# Altium schematic symbol library kmilo17pet-PIC32MX.SchLib: 556 symbols (part 7 of 38)
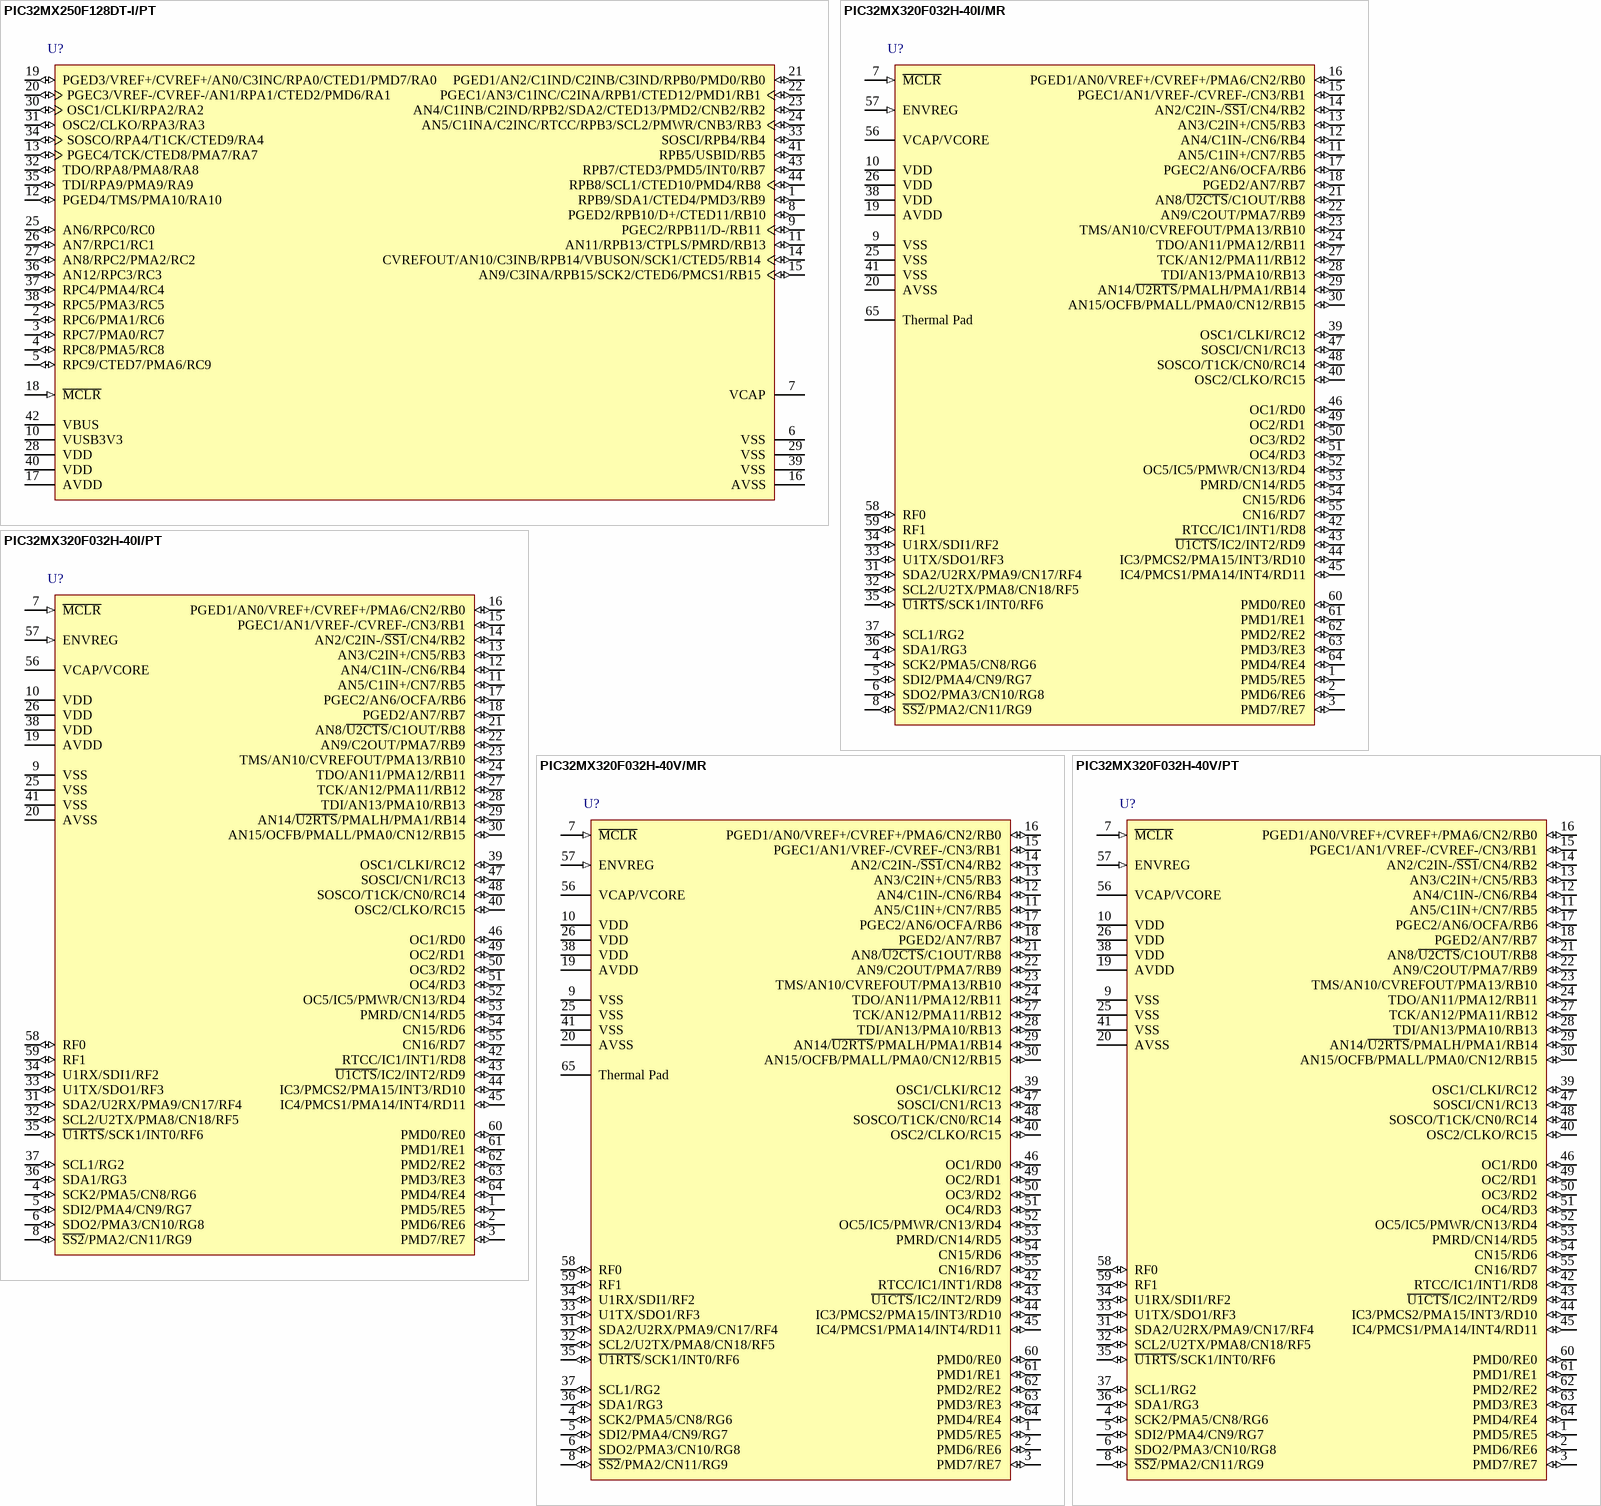
[diagram p198: symbols PIC32MX250F128DT-I/PT to PIC32MX320F032H-40V/PT]

## PIC32MX320F032H-40V/PT
designator U?
High Performance 40 MHz MIPS-Based 32-Bit Flash Microcontroller, 32KB Program Memory, 64-pin TQFP, V-Temperature; Manufacturer: Microchip; PartNumber: PIC32MX320F032H-40V/PT; DatasheetVersion: revH, May-2011; PackageVersion: revBB, Aug-2009; PackageReference: TQFP-PT64; PackageDescription: 64-Lead Thin Plastic Quad Flat Pack (PT) - 10x10x1mm Body, 2.00mm [TQFP]; Supplier 1: Digi-Key; Supplier Part Number 1: PIC32MX320F032H-40V/PT-ND; Mounting Technology: Surface Mount; Code_JEDEC: MS-026; ComponentLink1Description: Manufacturer URL; ComponentLink1URL: http://www.microchip.com/; ComponentLink2Description: Datasheet; ComponentLink2URL: http://ww1.microchip.com/downloads/en/DeviceDoc/61143H.pdf; ComponentLink3Description: Package Specification; ComponentLink3URL: http://ww1.microchip.com/downloads/en/PackagingSpec/en012702.pdf
footprint TQFP-PT64_N (Thin QFP, 64-Leads, Body 10x10mm, Pitch 0.5mm, IPC Medium Density)
footprint TQFP-PT64_L (Thin QFP, 64-Leads, Body 10x10mm, Pitch 0.5mm, IPC High Density)
footprint TQFP-PT64_M (Thin QFP, 64-Leads, Body 10x10mm, Pitch 0.5mm, IPC Low Density)
pins: 1 PMD5/RE5 (io), 2 PMD6/RE6 (io), 3 PMD7/RE7 (io), 4 SCK2/PMA5/CN8/RG6 (io), 5 SDI2/PMA4/CN9/RG7 (io), 6 SDO2/PMA3/CN10/RG8 (io), 7 ~{MCLR} (in), 8 ~{SS2}/PMA2/CN11/RG9 (io), 9 VSS (power), 10 VDD (power), 11 AN5/C1IN+/CN7/RB5 (io), 12 AN4/C1IN-/CN6/RB4 (io), 13 AN3/C2IN+/CN5/RB3 (io), 14 AN2/C2IN-/~{SS1}/CN4/RB2 (io), 15 PGEC1/AN1/VREF-/CVREF-/CN3/RB1 (io), 16 PGED1/AN0/VREF+/CVREF+/PMA6/CN2/RB0 (io), 17 PGEC2/AN6/OCFA/RB6 (io), 18 PGED2/AN7/RB7 (io), 19 AVDD (power), 20 AVSS (power), 21 AN8/~{U2CTS}/C1OUT/RB8 (io), 22 AN9/C2OUT/PMA7/RB9 (io), 23 TMS/AN10/CVREFOUT/PMA13/RB10 (io), 24 TDO/AN11/PMA12/RB11 (io), 25 VSS (power), 26 VDD (power), 27 TCK/AN12/PMA11/RB12 (io), 28 TDI/AN13/PMA10/RB13 (io), 29 AN14/~{U2RTS}/PMALH/PMA1/RB14 (io), 30 AN15/OCFB/PMALL/PMA0/CN12/RB15 (io), 31 SDA2/U2RX/PMA9/CN17/RF4 (io), 32 SCL2/U2TX/PMA8/CN18/RF5 (io), 33 U1TX/SDO1/RF3 (io), 34 U1RX/SDI1/RF2 (io), 35 ~{U1RTS}/SCK1/INT0/RF6 (io), 36 SDA1/RG3 (io), 37 SCL1/RG2 (io), 38 VDD (power), 39 OSC1/CLKI/RC12 (io), 40 OSC2/CLKO/RC15 (io), 41 VSS (power), 42 RTCC/IC1/INT1/RD8 (io), 43 ~{U1CTS}/IC2/INT2/RD9 (io), 44 IC3/PMCS2/PMA15/INT3/RD10 (io), 45 IC4/PMCS1/PMA14/INT4/RD11 (io), 46 OC1/RD0 (io), 47 SOSCI/CN1/RC13 (io), 48 SOSCO/T1CK/CN0/RC14 (io), 49 OC2/RD1 (io), 50 OC3/RD2 (io), 51 OC4/RD3 (io), 52 OC5/IC5/PMWR/CN13/RD4 (io), 53 PMRD/CN14/RD5 (io), 54 CN15/RD6 (io), 55 CN16/RD7 (io), 56 VCAP/VCORE (power), 57 ENVREG (in), 58 RF0 (io), 59 RF1 (io), 60 PMD0/RE0 (io), 61 PMD1/RE1 (io), 62 PMD2/RE2 (io), 63 PMD3/RE3 (io), 64 PMD4/RE4 (io)

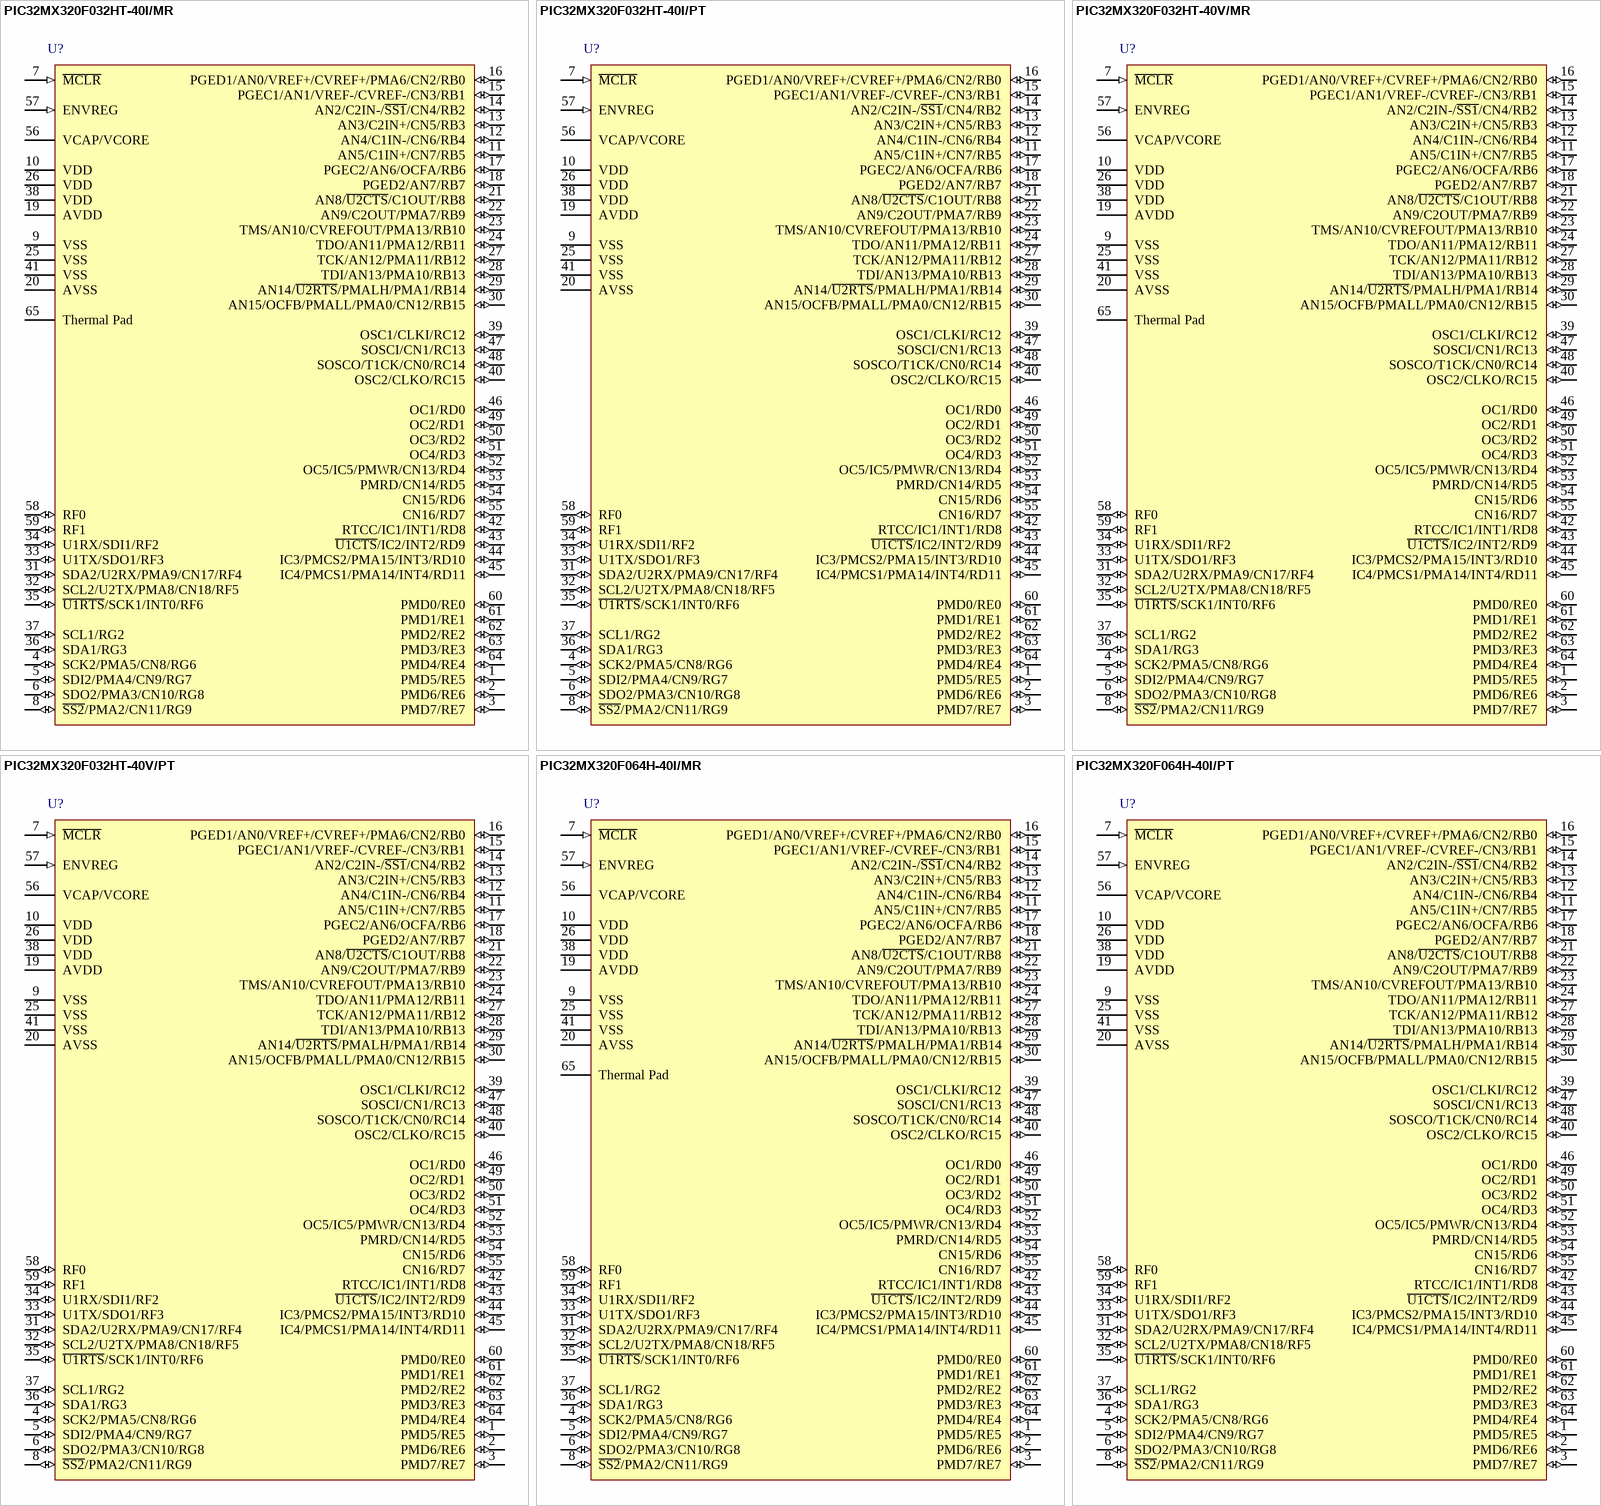
[diagram p25: symbols PIC32MX320F032HT-40I/MR to PIC32MX320F064H-40I/PT]

## PIC32MX320F032HT-40I/MR
designator U?
High Performance 40 MHz MIPS-Based 32-Bit Flash Microcontroller, 32KB Program Memory, 64-pin QFN, Industrial Temperature, Tape and Reel; Manufacturer: Microchip; PartNumber: PIC32MX320F032HT-40I/MR; DatasheetVersion: revH, May-2011; PackageVersion: revBB, Aug-2009; PackageReference: QFN-MR64; PackageDescription: 64-Lead Plastic Quad Flat, No Lead Package (MR) - 9x9x0.9 mm Body [QFN]; Supplier 1: Digi-Key; Supplier Part Number 1: PIC32MX320F032HT-40I/MR-ND; Mounting Technology: Surface Mount; ComponentLink1Description: Manufacturer URL; ComponentLink1URL: http://www.microchip.com/; ComponentLink2Description: Datasheet; ComponentLink2URL: http://ww1.microchip.com/downloads/en/DeviceDoc/61143H.pdf; ComponentLink3Description: Package Specification; ComponentLink3URL: http://ww1.microchip.com/downloads/en/PackagingSpec/en012702.pdf
footprint QFN-MR64_N (QFN, 64-Leads, Body 9x9mm, Pitch 0.5mm, Thermal Pad 7.5x7.5mm, IPC Medium Density)
footprint QFN-MR64_L (QFN, 64-Leads, Body 9x9mm, Pitch 0.5mm, Thermal Pad 7.5x7.5mm, IPC High Density)
footprint QFN-MR64_M (QFN, 64-Leads, Body 9x9mm, Pitch 0.5mm, Thermal Pad 7.5x7.5mm, IPC Low Density)
pins: 1 PMD5/RE5 (io), 2 PMD6/RE6 (io), 3 PMD7/RE7 (io), 4 SCK2/PMA5/CN8/RG6 (io), 5 SDI2/PMA4/CN9/RG7 (io), 6 SDO2/PMA3/CN10/RG8 (io), 7 ~{MCLR} (in), 8 ~{SS2}/PMA2/CN11/RG9 (io), 9 VSS (power), 10 VDD (power), 11 AN5/C1IN+/CN7/RB5 (io), 12 AN4/C1IN-/CN6/RB4 (io), 13 AN3/C2IN+/CN5/RB3 (io), 14 AN2/C2IN-/~{SS1}/CN4/RB2 (io), 15 PGEC1/AN1/VREF-/CVREF-/CN3/RB1 (io), 16 PGED1/AN0/VREF+/CVREF+/PMA6/CN2/RB0 (io), 17 PGEC2/AN6/OCFA/RB6 (io), 18 PGED2/AN7/RB7 (io), 19 AVDD (power), 20 AVSS (power), 21 AN8/~{U2CTS}/C1OUT/RB8 (io), 22 AN9/C2OUT/PMA7/RB9 (io), 23 TMS/AN10/CVREFOUT/PMA13/RB10 (io), 24 TDO/AN11/PMA12/RB11 (io), 25 VSS (power), 26 VDD (power), 27 TCK/AN12/PMA11/RB12 (io), 28 TDI/AN13/PMA10/RB13 (io), 29 AN14/~{U2RTS}/PMALH/PMA1/RB14 (io), 30 AN15/OCFB/PMALL/PMA0/CN12/RB15 (io), 31 SDA2/U2RX/PMA9/CN17/RF4 (io), 32 SCL2/U2TX/PMA8/CN18/RF5 (io), 33 U1TX/SDO1/RF3 (io), 34 U1RX/SDI1/RF2 (io), 35 ~{U1RTS}/SCK1/INT0/RF6 (io), 36 SDA1/RG3 (io), 37 SCL1/RG2 (io), 38 VDD (power), 39 OSC1/CLKI/RC12 (io), 40 OSC2/CLKO/RC15 (io), 41 VSS (power), 42 RTCC/IC1/INT1/RD8 (io), 43 ~{U1CTS}/IC2/INT2/RD9 (io), 44 IC3/PMCS2/PMA15/INT3/RD10 (io), 45 IC4/PMCS1/PMA14/INT4/RD11 (io), 46 OC1/RD0 (io), 47 SOSCI/CN1/RC13 (io), 48 SOSCO/T1CK/CN0/RC14 (io), 49 OC2/RD1 (io), 50 OC3/RD2 (io), 51 OC4/RD3 (io), 52 OC5/IC5/PMWR/CN13/RD4 (io), 53 PMRD/CN14/RD5 (io), 54 CN15/RD6 (io), 55 CN16/RD7 (io), 56 VCAP/VCORE (power), 57 ENVREG (in), 58 RF0 (io), 59 RF1 (io), 60 PMD0/RE0 (io), 61 PMD1/RE1 (io), 62 PMD2/RE2 (io), 63 PMD3/RE3 (io), 64 PMD4/RE4 (io), 65 Thermal Pad

## PIC32MX320F032HT-40I/PT
designator U?
High Performance 40 MHz MIPS-Based 32-Bit Flash Microcontroller, 32KB Program Memory, 64-pin TQFP, Industrial Temperature, Tape and Reel; Manufacturer: Microchip; PartNumber: PIC32MX320F032HT-40I/PT; DatasheetVersion: revH, May-2011; PackageVersion: revBB, Aug-2009; PackageReference: TQFP-PT64; PackageDescription: 64-Lead Thin Plastic Quad Flat Pack (PT) - 10x10x1mm Body, 2.00mm [TQFP]; Supplier 1: Digi-Key; Supplier Part Number 1: PIC32MX320F032HT-40I/PT-ND; Mounting Technology: Surface Mount; Code_JEDEC: MS-026; ComponentLink1Description: Manufacturer URL; ComponentLink1URL: http://www.microchip.com/; ComponentLink2Description: Datasheet; ComponentLink2URL: http://ww1.microchip.com/downloads/en/DeviceDoc/61143H.pdf; ComponentLink3Description: Package Specification; ComponentLink3URL: http://ww1.microchip.com/downloads/en/PackagingSpec/en012702.pdf
footprint TQFP-PT64_N (Thin QFP, 64-Leads, Body 10x10mm, Pitch 0.5mm, IPC Medium Density)
footprint TQFP-PT64_L (Thin QFP, 64-Leads, Body 10x10mm, Pitch 0.5mm, IPC High Density)
footprint TQFP-PT64_M (Thin QFP, 64-Leads, Body 10x10mm, Pitch 0.5mm, IPC Low Density)
pins: 1 PMD5/RE5 (io), 2 PMD6/RE6 (io), 3 PMD7/RE7 (io), 4 SCK2/PMA5/CN8/RG6 (io), 5 SDI2/PMA4/CN9/RG7 (io), 6 SDO2/PMA3/CN10/RG8 (io), 7 ~{MCLR} (in), 8 ~{SS2}/PMA2/CN11/RG9 (io), 9 VSS (power), 10 VDD (power), 11 AN5/C1IN+/CN7/RB5 (io), 12 AN4/C1IN-/CN6/RB4 (io), 13 AN3/C2IN+/CN5/RB3 (io), 14 AN2/C2IN-/~{SS1}/CN4/RB2 (io), 15 PGEC1/AN1/VREF-/CVREF-/CN3/RB1 (io), 16 PGED1/AN0/VREF+/CVREF+/PMA6/CN2/RB0 (io), 17 PGEC2/AN6/OCFA/RB6 (io), 18 PGED2/AN7/RB7 (io), 19 AVDD (power), 20 AVSS (power), 21 AN8/~{U2CTS}/C1OUT/RB8 (io), 22 AN9/C2OUT/PMA7/RB9 (io), 23 TMS/AN10/CVREFOUT/PMA13/RB10 (io), 24 TDO/AN11/PMA12/RB11 (io), 25 VSS (power), 26 VDD (power), 27 TCK/AN12/PMA11/RB12 (io), 28 TDI/AN13/PMA10/RB13 (io), 29 AN14/~{U2RTS}/PMALH/PMA1/RB14 (io), 30 AN15/OCFB/PMALL/PMA0/CN12/RB15 (io), 31 SDA2/U2RX/PMA9/CN17/RF4 (io), 32 SCL2/U2TX/PMA8/CN18/RF5 (io), 33 U1TX/SDO1/RF3 (io), 34 U1RX/SDI1/RF2 (io), 35 ~{U1RTS}/SCK1/INT0/RF6 (io), 36 SDA1/RG3 (io), 37 SCL1/RG2 (io), 38 VDD (power), 39 OSC1/CLKI/RC12 (io), 40 OSC2/CLKO/RC15 (io), 41 VSS (power), 42 RTCC/IC1/INT1/RD8 (io), 43 ~{U1CTS}/IC2/INT2/RD9 (io), 44 IC3/PMCS2/PMA15/INT3/RD10 (io), 45 IC4/PMCS1/PMA14/INT4/RD11 (io), 46 OC1/RD0 (io), 47 SOSCI/CN1/RC13 (io), 48 SOSCO/T1CK/CN0/RC14 (io), 49 OC2/RD1 (io), 50 OC3/RD2 (io), 51 OC4/RD3 (io), 52 OC5/IC5/PMWR/CN13/RD4 (io), 53 PMRD/CN14/RD5 (io), 54 CN15/RD6 (io), 55 CN16/RD7 (io), 56 VCAP/VCORE (power), 57 ENVREG (in), 58 RF0 (io), 59 RF1 (io), 60 PMD0/RE0 (io), 61 PMD1/RE1 (io), 62 PMD2/RE2 (io), 63 PMD3/RE3 (io), 64 PMD4/RE4 (io)

## PIC32MX320F032HT-40V/MR
designator U?
High Performance 40 MHz MIPS-Based 32-Bit Flash Microcontroller, 32KB Program Memory, 64-pin QFN, V-Temperature, Tape and Reel; Manufacturer: Microchip; PartNumber: PIC32MX320F032HT-40V/MR; DatasheetVersion: revH, May-2011; PackageVersion: revBB, Aug-2009; PackageReference: QFN-MR64; PackageDescription: 64-Lead Plastic Quad Flat, No Lead Package (MR) - 9x9x0.9 mm Body [QFN]; Supplier 1: Digi-Key; Supplier Part Number 1: PIC32MX320F032HT-40V/MR-ND; Mounting Technology: Surface Mount; ComponentLink1Description: Manufacturer URL; ComponentLink1URL: http://www.microchip.com/; ComponentLink2Description: Datasheet; ComponentLink2URL: http://ww1.microchip.com/downloads/en/DeviceDoc/61143H.pdf; ComponentLink3Description: Package Specification; ComponentLink3URL: http://ww1.microchip.com/downloads/en/PackagingSpec/en012702.pdf
footprint QFN-MR64_N (QFN, 64-Leads, Body 9x9mm, Pitch 0.5mm, Thermal Pad 7.5x7.5mm, IPC Medium Density)
footprint QFN-MR64_L (QFN, 64-Leads, Body 9x9mm, Pitch 0.5mm, Thermal Pad 7.5x7.5mm, IPC High Density)
footprint QFN-MR64_M (QFN, 64-Leads, Body 9x9mm, Pitch 0.5mm, Thermal Pad 7.5x7.5mm, IPC Low Density)
pins: 1 PMD5/RE5 (io), 2 PMD6/RE6 (io), 3 PMD7/RE7 (io), 4 SCK2/PMA5/CN8/RG6 (io), 5 SDI2/PMA4/CN9/RG7 (io), 6 SDO2/PMA3/CN10/RG8 (io), 7 ~{MCLR} (in), 8 ~{SS2}/PMA2/CN11/RG9 (io), 9 VSS (power), 10 VDD (power), 11 AN5/C1IN+/CN7/RB5 (io), 12 AN4/C1IN-/CN6/RB4 (io), 13 AN3/C2IN+/CN5/RB3 (io), 14 AN2/C2IN-/~{SS1}/CN4/RB2 (io), 15 PGEC1/AN1/VREF-/CVREF-/CN3/RB1 (io), 16 PGED1/AN0/VREF+/CVREF+/PMA6/CN2/RB0 (io), 17 PGEC2/AN6/OCFA/RB6 (io), 18 PGED2/AN7/RB7 (io), 19 AVDD (power), 20 AVSS (power), 21 AN8/~{U2CTS}/C1OUT/RB8 (io), 22 AN9/C2OUT/PMA7/RB9 (io), 23 TMS/AN10/CVREFOUT/PMA13/RB10 (io), 24 TDO/AN11/PMA12/RB11 (io), 25 VSS (power), 26 VDD (power), 27 TCK/AN12/PMA11/RB12 (io), 28 TDI/AN13/PMA10/RB13 (io), 29 AN14/~{U2RTS}/PMALH/PMA1/RB14 (io), 30 AN15/OCFB/PMALL/PMA0/CN12/RB15 (io), 31 SDA2/U2RX/PMA9/CN17/RF4 (io), 32 SCL2/U2TX/PMA8/CN18/RF5 (io), 33 U1TX/SDO1/RF3 (io), 34 U1RX/SDI1/RF2 (io), 35 ~{U1RTS}/SCK1/INT0/RF6 (io), 36 SDA1/RG3 (io), 37 SCL1/RG2 (io), 38 VDD (power), 39 OSC1/CLKI/RC12 (io), 40 OSC2/CLKO/RC15 (io), 41 VSS (power), 42 RTCC/IC1/INT1/RD8 (io), 43 ~{U1CTS}/IC2/INT2/RD9 (io), 44 IC3/PMCS2/PMA15/INT3/RD10 (io), 45 IC4/PMCS1/PMA14/INT4/RD11 (io), 46 OC1/RD0 (io), 47 SOSCI/CN1/RC13 (io), 48 SOSCO/T1CK/CN0/RC14 (io), 49 OC2/RD1 (io), 50 OC3/RD2 (io), 51 OC4/RD3 (io), 52 OC5/IC5/PMWR/CN13/RD4 (io), 53 PMRD/CN14/RD5 (io), 54 CN15/RD6 (io), 55 CN16/RD7 (io), 56 VCAP/VCORE (power), 57 ENVREG (in), 58 RF0 (io), 59 RF1 (io), 60 PMD0/RE0 (io), 61 PMD1/RE1 (io), 62 PMD2/RE2 (io), 63 PMD3/RE3 (io), 64 PMD4/RE4 (io), 65 Thermal Pad

## PIC32MX320F032HT-40V/PT
designator U?
High Performance 40 MHz MIPS-Based 32-Bit Flash Microcontroller, 32KB Program Memory, 64-pin TQFP, V-Temperature, Tape and Reel; Manufacturer: Microchip; PartNumber: PIC32MX320F032HT-40V/PT; DatasheetVersion: revH, May-2011; PackageVersion: revBB, Aug-2009; PackageReference: TQFP-PT64; PackageDescription: 64-Lead Thin Plastic Quad Flat Pack (PT) - 10x10x1mm Body, 2.00mm [TQFP]; Supplier 1: Digi-Key; Supplier Part Number 1: PIC32MX320F032HT-40V/PT-ND; Mounting Technology: Surface Mount; Code_JEDEC: MS-026; ComponentLink1Description: Manufacturer URL; ComponentLink1URL: http://www.microchip.com/; ComponentLink2Description: Datasheet; ComponentLink2URL: http://ww1.microchip.com/downloads/en/DeviceDoc/61143H.pdf; ComponentLink3Description: Package Specification; ComponentLink3URL: http://ww1.microchip.com/downloads/en/PackagingSpec/en012702.pdf
footprint TQFP-PT64_N (Thin QFP, 64-Leads, Body 10x10mm, Pitch 0.5mm, IPC Medium Density)
footprint TQFP-PT64_L (Thin QFP, 64-Leads, Body 10x10mm, Pitch 0.5mm, IPC High Density)
footprint TQFP-PT64_M (Thin QFP, 64-Leads, Body 10x10mm, Pitch 0.5mm, IPC Low Density)
pins: 1 PMD5/RE5 (io), 2 PMD6/RE6 (io), 3 PMD7/RE7 (io), 4 SCK2/PMA5/CN8/RG6 (io), 5 SDI2/PMA4/CN9/RG7 (io), 6 SDO2/PMA3/CN10/RG8 (io), 7 ~{MCLR} (in), 8 ~{SS2}/PMA2/CN11/RG9 (io), 9 VSS (power), 10 VDD (power), 11 AN5/C1IN+/CN7/RB5 (io), 12 AN4/C1IN-/CN6/RB4 (io), 13 AN3/C2IN+/CN5/RB3 (io), 14 AN2/C2IN-/~{SS1}/CN4/RB2 (io), 15 PGEC1/AN1/VREF-/CVREF-/CN3/RB1 (io), 16 PGED1/AN0/VREF+/CVREF+/PMA6/CN2/RB0 (io), 17 PGEC2/AN6/OCFA/RB6 (io), 18 PGED2/AN7/RB7 (io), 19 AVDD (power), 20 AVSS (power), 21 AN8/~{U2CTS}/C1OUT/RB8 (io), 22 AN9/C2OUT/PMA7/RB9 (io), 23 TMS/AN10/CVREFOUT/PMA13/RB10 (io), 24 TDO/AN11/PMA12/RB11 (io), 25 VSS (power), 26 VDD (power), 27 TCK/AN12/PMA11/RB12 (io), 28 TDI/AN13/PMA10/RB13 (io), 29 AN14/~{U2RTS}/PMALH/PMA1/RB14 (io), 30 AN15/OCFB/PMALL/PMA0/CN12/RB15 (io), 31 SDA2/U2RX/PMA9/CN17/RF4 (io), 32 SCL2/U2TX/PMA8/CN18/RF5 (io), 33 U1TX/SDO1/RF3 (io), 34 U1RX/SDI1/RF2 (io), 35 ~{U1RTS}/SCK1/INT0/RF6 (io), 36 SDA1/RG3 (io), 37 SCL1/RG2 (io), 38 VDD (power), 39 OSC1/CLKI/RC12 (io), 40 OSC2/CLKO/RC15 (io), 41 VSS (power), 42 RTCC/IC1/INT1/RD8 (io), 43 ~{U1CTS}/IC2/INT2/RD9 (io), 44 IC3/PMCS2/PMA15/INT3/RD10 (io), 45 IC4/PMCS1/PMA14/INT4/RD11 (io), 46 OC1/RD0 (io), 47 SOSCI/CN1/RC13 (io), 48 SOSCO/T1CK/CN0/RC14 (io), 49 OC2/RD1 (io), 50 OC3/RD2 (io), 51 OC4/RD3 (io), 52 OC5/IC5/PMWR/CN13/RD4 (io), 53 PMRD/CN14/RD5 (io), 54 CN15/RD6 (io), 55 CN16/RD7 (io), 56 VCAP/VCORE (power), 57 ENVREG (in), 58 RF0 (io), 59 RF1 (io), 60 PMD0/RE0 (io), 61 PMD1/RE1 (io), 62 PMD2/RE2 (io), 63 PMD3/RE3 (io), 64 PMD4/RE4 (io)

## PIC32MX320F064H-40I/MR
designator U?
High Performance 80 MHz MIPS-Based 32-Bit Flash Microcontroller, 64KB Program Memory, 64-pin QFN, Industrial Temperature; Manufacturer: Microchip; PartNumber: PIC32MX320F064H-40I/MR; DatasheetVersion: revH, May-2011; PackageVersion: revBB, Aug-2009; PackageReference: QFN-MR64; PackageDescription: 64-Lead Plastic Quad Flat, No Lead Package (MR) - 9x9x0.9 mm Body [QFN]; Supplier 1: Digi-Key; Supplier Part Number 1: PIC32MX320F064H-40I/MR-ND; Mounting Technology: Surface Mount; ComponentLink1Description: Manufacturer URL; ComponentLink1URL: http://www.microchip.com/; ComponentLink2Description: Datasheet; ComponentLink2URL: http://ww1.microchip.com/downloads/en/DeviceDoc/61143H.pdf; ComponentLink3Description: Package Specification; ComponentLink3URL: http://ww1.microchip.com/downloads/en/PackagingSpec/en012702.pdf
footprint QFN-MR64_N (QFN, 64-Leads, Body 9x9mm, Pitch 0.5mm, Thermal Pad 7.5x7.5mm, IPC Medium Density)
footprint QFN-MR64_L (QFN, 64-Leads, Body 9x9mm, Pitch 0.5mm, Thermal Pad 7.5x7.5mm, IPC High Density)
footprint QFN-MR64_M (QFN, 64-Leads, Body 9x9mm, Pitch 0.5mm, Thermal Pad 7.5x7.5mm, IPC Low Density)
pins: 1 PMD5/RE5 (io), 2 PMD6/RE6 (io), 3 PMD7/RE7 (io), 4 SCK2/PMA5/CN8/RG6 (io), 5 SDI2/PMA4/CN9/RG7 (io), 6 SDO2/PMA3/CN10/RG8 (io), 7 ~{MCLR} (in), 8 ~{SS2}/PMA2/CN11/RG9 (io), 9 VSS (power), 10 VDD (power), 11 AN5/C1IN+/CN7/RB5 (io), 12 AN4/C1IN-/CN6/RB4 (io), 13 AN3/C2IN+/CN5/RB3 (io), 14 AN2/C2IN-/~{SS1}/CN4/RB2 (io), 15 PGEC1/AN1/VREF-/CVREF-/CN3/RB1 (io), 16 PGED1/AN0/VREF+/CVREF+/PMA6/CN2/RB0 (io), 17 PGEC2/AN6/OCFA/RB6 (io), 18 PGED2/AN7/RB7 (io), 19 AVDD (power), 20 AVSS (power), 21 AN8/~{U2CTS}/C1OUT/RB8 (io), 22 AN9/C2OUT/PMA7/RB9 (io), 23 TMS/AN10/CVREFOUT/PMA13/RB10 (io), 24 TDO/AN11/PMA12/RB11 (io), 25 VSS (power), 26 VDD (power), 27 TCK/AN12/PMA11/RB12 (io), 28 TDI/AN13/PMA10/RB13 (io), 29 AN14/~{U2RTS}/PMALH/PMA1/RB14 (io), 30 AN15/OCFB/PMALL/PMA0/CN12/RB15 (io), 31 SDA2/U2RX/PMA9/CN17/RF4 (io), 32 SCL2/U2TX/PMA8/CN18/RF5 (io), 33 U1TX/SDO1/RF3 (io), 34 U1RX/SDI1/RF2 (io), 35 ~{U1RTS}/SCK1/INT0/RF6 (io), 36 SDA1/RG3 (io), 37 SCL1/RG2 (io), 38 VDD (power), 39 OSC1/CLKI/RC12 (io), 40 OSC2/CLKO/RC15 (io), 41 VSS (power), 42 RTCC/IC1/INT1/RD8 (io), 43 ~{U1CTS}/IC2/INT2/RD9 (io), 44 IC3/PMCS2/PMA15/INT3/RD10 (io), 45 IC4/PMCS1/PMA14/INT4/RD11 (io), 46 OC1/RD0 (io), 47 SOSCI/CN1/RC13 (io), 48 SOSCO/T1CK/CN0/RC14 (io), 49 OC2/RD1 (io), 50 OC3/RD2 (io), 51 OC4/RD3 (io), 52 OC5/IC5/PMWR/CN13/RD4 (io), 53 PMRD/CN14/RD5 (io), 54 CN15/RD6 (io), 55 CN16/RD7 (io), 56 VCAP/VCORE (power), 57 ENVREG (in), 58 RF0 (io), 59 RF1 (io), 60 PMD0/RE0 (io), 61 PMD1/RE1 (io), 62 PMD2/RE2 (io), 63 PMD3/RE3 (io), 64 PMD4/RE4 (io), 65 Thermal Pad

## PIC32MX320F064H-40I/PT
designator U?
High Performance 80 MHz MIPS-Based 32-Bit Flash Microcontroller, 64KB Program Memory, 64-pin TQFP, Industrial Temperature; Manufacturer: Microchip; PartNumber: PIC32MX320F064H-40I/PT; DatasheetVersion: revH, May-2011; PackageVersion: revBB, Aug-2009; PackageReference: TQFP-PT64; PackageDescription: 64-Lead Thin Plastic Quad Flat Pack (PT) - 10x10x1mm Body, 2.00mm [TQFP]; Supplier 1: Digi-Key; Supplier Part Number 1: PIC32MX320F064H-40I/PT-ND; Mounting Technology: Surface Mount; Code_JEDEC: MS-026; ComponentLink1Description: Manufacturer URL; ComponentLink1URL: http://www.microchip.com/; ComponentLink2Description: Datasheet; ComponentLink2URL: http://ww1.microchip.com/downloads/en/DeviceDoc/61143H.pdf; ComponentLink3Description: Package Specification; ComponentLink3URL: http://ww1.microchip.com/downloads/en/PackagingSpec/en012702.pdf
footprint TQFP-PT64_N (Thin QFP, 64-Leads, Body 10x10mm, Pitch 0.5mm, IPC Medium Density)
footprint TQFP-PT64_L (Thin QFP, 64-Leads, Body 10x10mm, Pitch 0.5mm, IPC High Density)
footprint TQFP-PT64_M (Thin QFP, 64-Leads, Body 10x10mm, Pitch 0.5mm, IPC Low Density)
pins: 1 PMD5/RE5 (io), 2 PMD6/RE6 (io), 3 PMD7/RE7 (io), 4 SCK2/PMA5/CN8/RG6 (io), 5 SDI2/PMA4/CN9/RG7 (io), 6 SDO2/PMA3/CN10/RG8 (io), 7 ~{MCLR} (in), 8 ~{SS2}/PMA2/CN11/RG9 (io), 9 VSS (power), 10 VDD (power), 11 AN5/C1IN+/CN7/RB5 (io), 12 AN4/C1IN-/CN6/RB4 (io), 13 AN3/C2IN+/CN5/RB3 (io), 14 AN2/C2IN-/~{SS1}/CN4/RB2 (io), 15 PGEC1/AN1/VREF-/CVREF-/CN3/RB1 (io), 16 PGED1/AN0/VREF+/CVREF+/PMA6/CN2/RB0 (io), 17 PGEC2/AN6/OCFA/RB6 (io), 18 PGED2/AN7/RB7 (io), 19 AVDD (power), 20 AVSS (power), 21 AN8/~{U2CTS}/C1OUT/RB8 (io), 22 AN9/C2OUT/PMA7/RB9 (io), 23 TMS/AN10/CVREFOUT/PMA13/RB10 (io), 24 TDO/AN11/PMA12/RB11 (io), 25 VSS (power), 26 VDD (power), 27 TCK/AN12/PMA11/RB12 (io), 28 TDI/AN13/PMA10/RB13 (io), 29 AN14/~{U2RTS}/PMALH/PMA1/RB14 (io), 30 AN15/OCFB/PMALL/PMA0/CN12/RB15 (io), 31 SDA2/U2RX/PMA9/CN17/RF4 (io), 32 SCL2/U2TX/PMA8/CN18/RF5 (io), 33 U1TX/SDO1/RF3 (io), 34 U1RX/SDI1/RF2 (io), 35 ~{U1RTS}/SCK1/INT0/RF6 (io), 36 SDA1/RG3 (io), 37 SCL1/RG2 (io), 38 VDD (power), 39 OSC1/CLKI/RC12 (io), 40 OSC2/CLKO/RC15 (io), 41 VSS (power), 42 RTCC/IC1/INT1/RD8 (io), 43 ~{U1CTS}/IC2/INT2/RD9 (io), 44 IC3/PMCS2/PMA15/INT3/RD10 (io), 45 IC4/PMCS1/PMA14/INT4/RD11 (io), 46 OC1/RD0 (io), 47 SOSCI/CN1/RC13 (io), 48 SOSCO/T1CK/CN0/RC14 (io), 49 OC2/RD1 (io), 50 OC3/RD2 (io), 51 OC4/RD3 (io), 52 OC5/IC5/PMWR/CN13/RD4 (io), 53 PMRD/CN14/RD5 (io), 54 CN15/RD6 (io), 55 CN16/RD7 (io), 56 VCAP/VCORE (power), 57 ENVREG (in), 58 RF0 (io), 59 RF1 (io), 60 PMD0/RE0 (io), 61 PMD1/RE1 (io), 62 PMD2/RE2 (io), 63 PMD3/RE3 (io), 64 PMD4/RE4 (io)

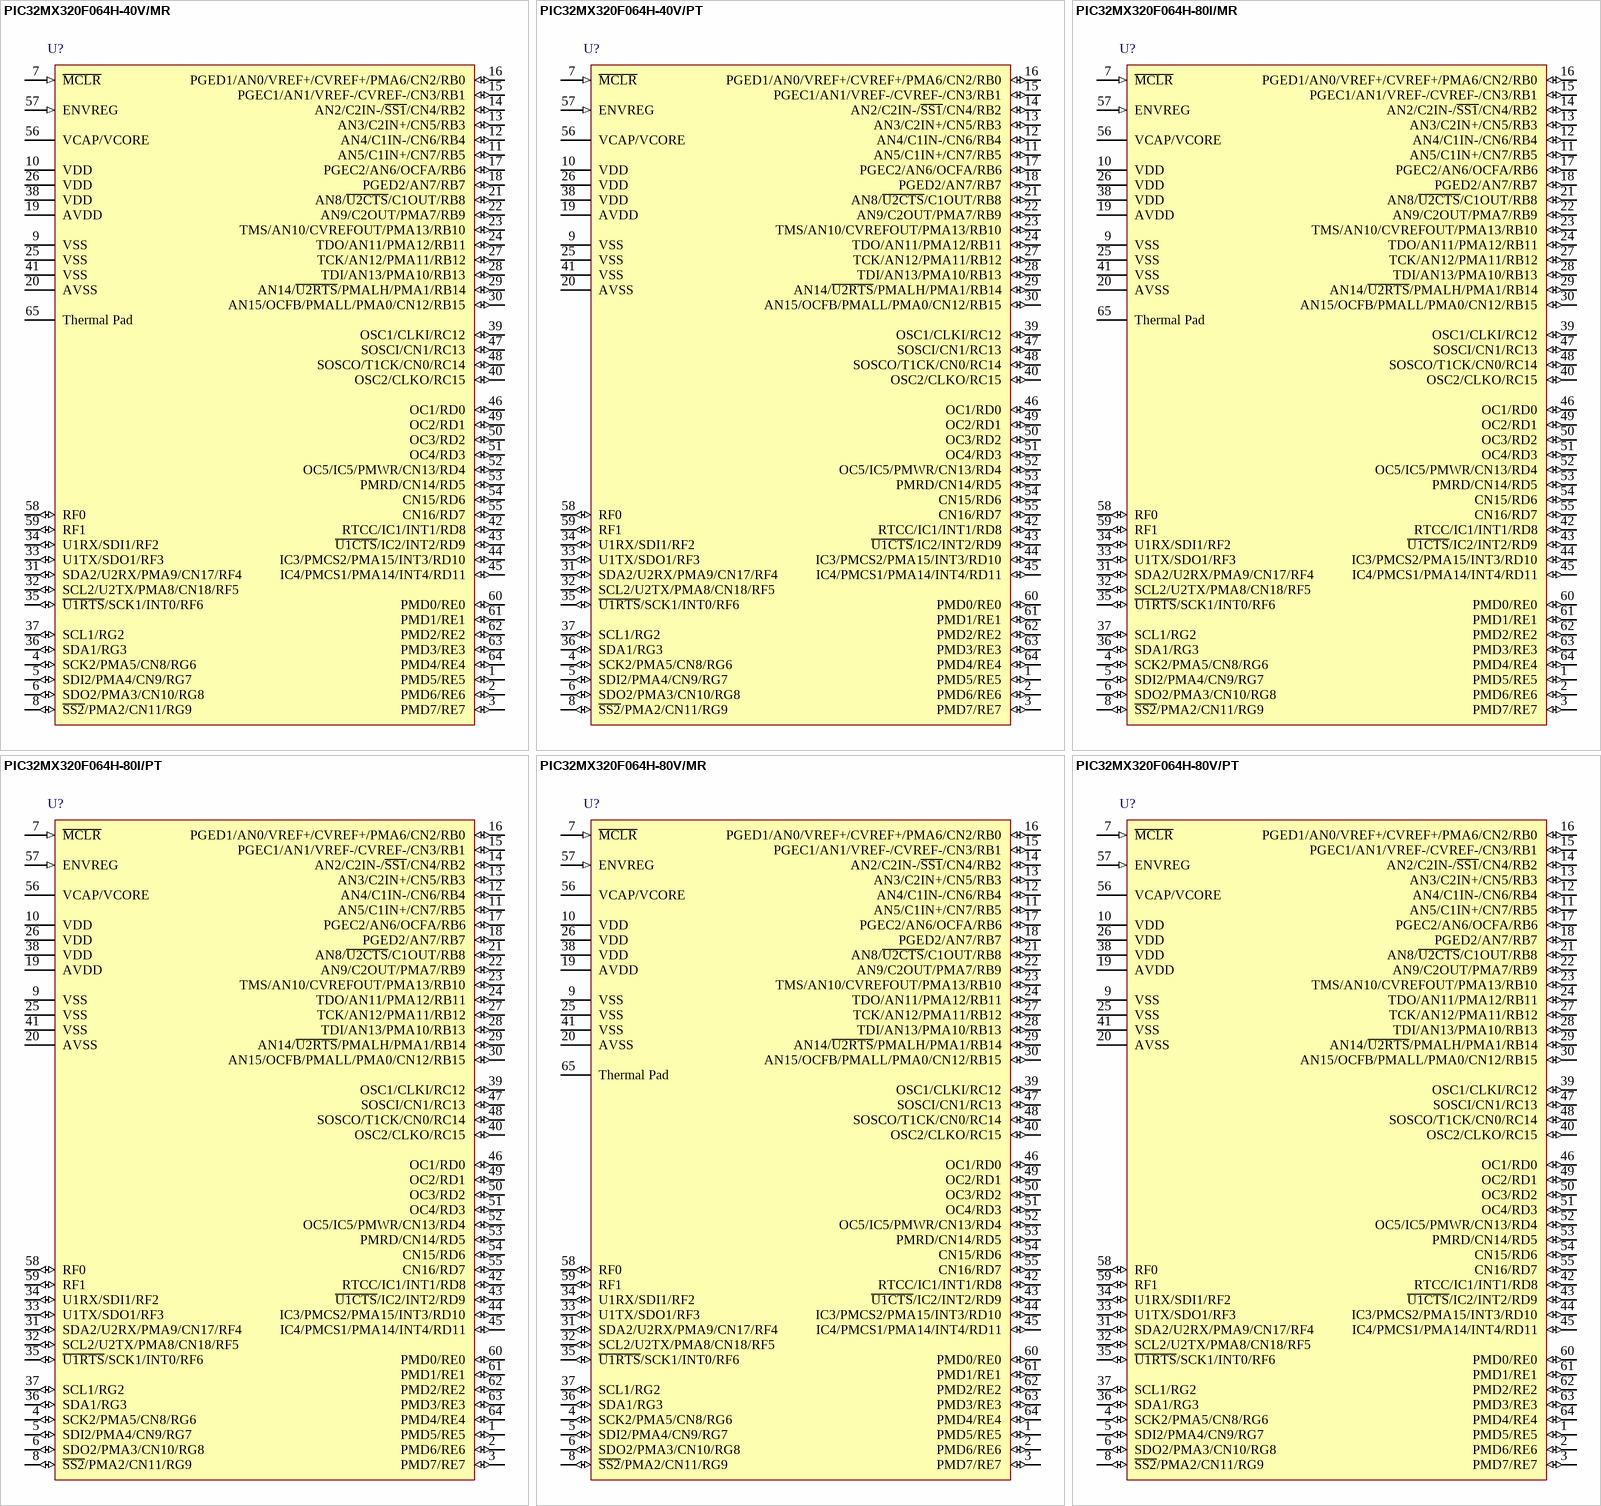
[diagram p26: symbols PIC32MX320F064H-40V/MR to PIC32MX320F064H-80V/PT]

## PIC32MX320F064H-40V/MR
designator U?
High Performance 80 MHz MIPS-Based 32-Bit Flash Microcontroller, 64KB Program Memory, 64-pin QFN, V-Temperature; Manufacturer: Microchip; PartNumber: PIC32MX320F064H-40V/MR; DatasheetVersion: revH, May-2011; PackageVersion: revBB, Aug-2009; PackageReference: QFN-MR64; PackageDescription: 64-Lead Plastic Quad Flat, No Lead Package (MR) - 9x9x0.9 mm Body [QFN]; Supplier 1: Digi-Key; Supplier Part Number 1: PIC32MX320F064H-40V/MR-ND; Mounting Technology: Surface Mount; ComponentLink1Description: Manufacturer URL; ComponentLink1URL: http://www.microchip.com/; ComponentLink2Description: Datasheet; ComponentLink2URL: http://ww1.microchip.com/downloads/en/DeviceDoc/61143H.pdf; ComponentLink3Description: Package Specification; ComponentLink3URL: http://ww1.microchip.com/downloads/en/PackagingSpec/en012702.pdf
footprint QFN-MR64_N (QFN, 64-Leads, Body 9x9mm, Pitch 0.5mm, Thermal Pad 7.5x7.5mm, IPC Medium Density)
footprint QFN-MR64_L (QFN, 64-Leads, Body 9x9mm, Pitch 0.5mm, Thermal Pad 7.5x7.5mm, IPC High Density)
footprint QFN-MR64_M (QFN, 64-Leads, Body 9x9mm, Pitch 0.5mm, Thermal Pad 7.5x7.5mm, IPC Low Density)
pins: 1 PMD5/RE5 (io), 2 PMD6/RE6 (io), 3 PMD7/RE7 (io), 4 SCK2/PMA5/CN8/RG6 (io), 5 SDI2/PMA4/CN9/RG7 (io), 6 SDO2/PMA3/CN10/RG8 (io), 7 ~{MCLR} (in), 8 ~{SS2}/PMA2/CN11/RG9 (io), 9 VSS (power), 10 VDD (power), 11 AN5/C1IN+/CN7/RB5 (io), 12 AN4/C1IN-/CN6/RB4 (io), 13 AN3/C2IN+/CN5/RB3 (io), 14 AN2/C2IN-/~{SS1}/CN4/RB2 (io), 15 PGEC1/AN1/VREF-/CVREF-/CN3/RB1 (io), 16 PGED1/AN0/VREF+/CVREF+/PMA6/CN2/RB0 (io), 17 PGEC2/AN6/OCFA/RB6 (io), 18 PGED2/AN7/RB7 (io), 19 AVDD (power), 20 AVSS (power), 21 AN8/~{U2CTS}/C1OUT/RB8 (io), 22 AN9/C2OUT/PMA7/RB9 (io), 23 TMS/AN10/CVREFOUT/PMA13/RB10 (io), 24 TDO/AN11/PMA12/RB11 (io), 25 VSS (power), 26 VDD (power), 27 TCK/AN12/PMA11/RB12 (io), 28 TDI/AN13/PMA10/RB13 (io), 29 AN14/~{U2RTS}/PMALH/PMA1/RB14 (io), 30 AN15/OCFB/PMALL/PMA0/CN12/RB15 (io), 31 SDA2/U2RX/PMA9/CN17/RF4 (io), 32 SCL2/U2TX/PMA8/CN18/RF5 (io), 33 U1TX/SDO1/RF3 (io), 34 U1RX/SDI1/RF2 (io), 35 ~{U1RTS}/SCK1/INT0/RF6 (io), 36 SDA1/RG3 (io), 37 SCL1/RG2 (io), 38 VDD (power), 39 OSC1/CLKI/RC12 (io), 40 OSC2/CLKO/RC15 (io), 41 VSS (power), 42 RTCC/IC1/INT1/RD8 (io), 43 ~{U1CTS}/IC2/INT2/RD9 (io), 44 IC3/PMCS2/PMA15/INT3/RD10 (io), 45 IC4/PMCS1/PMA14/INT4/RD11 (io), 46 OC1/RD0 (io), 47 SOSCI/CN1/RC13 (io), 48 SOSCO/T1CK/CN0/RC14 (io), 49 OC2/RD1 (io), 50 OC3/RD2 (io), 51 OC4/RD3 (io), 52 OC5/IC5/PMWR/CN13/RD4 (io), 53 PMRD/CN14/RD5 (io), 54 CN15/RD6 (io), 55 CN16/RD7 (io), 56 VCAP/VCORE (power), 57 ENVREG (in), 58 RF0 (io), 59 RF1 (io), 60 PMD0/RE0 (io), 61 PMD1/RE1 (io), 62 PMD2/RE2 (io), 63 PMD3/RE3 (io), 64 PMD4/RE4 (io), 65 Thermal Pad

## PIC32MX320F064H-40V/PT
designator U?
High Performance 80 MHz MIPS-Based 32-Bit Flash Microcontroller, 64KB Program Memory, 64-pin TQFP, V-Temperature; Manufacturer: Microchip; PartNumber: PIC32MX320F064H-40V/PT; DatasheetVersion: revH, May-2011; PackageVersion: revBB, Aug-2009; PackageReference: TQFP-PT64; PackageDescription: 64-Lead Thin Plastic Quad Flat Pack (PT) - 10x10x1mm Body, 2.00mm [TQFP]; Supplier 1: Digi-Key; Supplier Part Number 1: PIC32MX320F064H-40V/PT-ND; Mounting Technology: Surface Mount; Code_JEDEC: MS-026; ComponentLink1Description: Manufacturer URL; ComponentLink1URL: http://www.microchip.com/; ComponentLink2Description: Datasheet; ComponentLink2URL: http://ww1.microchip.com/downloads/en/DeviceDoc/61143H.pdf; ComponentLink3Description: Package Specification; ComponentLink3URL: http://ww1.microchip.com/downloads/en/PackagingSpec/en012702.pdf
footprint TQFP-PT64_N (Thin QFP, 64-Leads, Body 10x10mm, Pitch 0.5mm, IPC Medium Density)
footprint TQFP-PT64_L (Thin QFP, 64-Leads, Body 10x10mm, Pitch 0.5mm, IPC High Density)
footprint TQFP-PT64_M (Thin QFP, 64-Leads, Body 10x10mm, Pitch 0.5mm, IPC Low Density)
pins: 1 PMD5/RE5 (io), 2 PMD6/RE6 (io), 3 PMD7/RE7 (io), 4 SCK2/PMA5/CN8/RG6 (io), 5 SDI2/PMA4/CN9/RG7 (io), 6 SDO2/PMA3/CN10/RG8 (io), 7 ~{MCLR} (in), 8 ~{SS2}/PMA2/CN11/RG9 (io), 9 VSS (power), 10 VDD (power), 11 AN5/C1IN+/CN7/RB5 (io), 12 AN4/C1IN-/CN6/RB4 (io), 13 AN3/C2IN+/CN5/RB3 (io), 14 AN2/C2IN-/~{SS1}/CN4/RB2 (io), 15 PGEC1/AN1/VREF-/CVREF-/CN3/RB1 (io), 16 PGED1/AN0/VREF+/CVREF+/PMA6/CN2/RB0 (io), 17 PGEC2/AN6/OCFA/RB6 (io), 18 PGED2/AN7/RB7 (io), 19 AVDD (power), 20 AVSS (power), 21 AN8/~{U2CTS}/C1OUT/RB8 (io), 22 AN9/C2OUT/PMA7/RB9 (io), 23 TMS/AN10/CVREFOUT/PMA13/RB10 (io), 24 TDO/AN11/PMA12/RB11 (io), 25 VSS (power), 26 VDD (power), 27 TCK/AN12/PMA11/RB12 (io), 28 TDI/AN13/PMA10/RB13 (io), 29 AN14/~{U2RTS}/PMALH/PMA1/RB14 (io), 30 AN15/OCFB/PMALL/PMA0/CN12/RB15 (io), 31 SDA2/U2RX/PMA9/CN17/RF4 (io), 32 SCL2/U2TX/PMA8/CN18/RF5 (io), 33 U1TX/SDO1/RF3 (io), 34 U1RX/SDI1/RF2 (io), 35 ~{U1RTS}/SCK1/INT0/RF6 (io), 36 SDA1/RG3 (io), 37 SCL1/RG2 (io), 38 VDD (power), 39 OSC1/CLKI/RC12 (io), 40 OSC2/CLKO/RC15 (io), 41 VSS (power), 42 RTCC/IC1/INT1/RD8 (io), 43 ~{U1CTS}/IC2/INT2/RD9 (io), 44 IC3/PMCS2/PMA15/INT3/RD10 (io), 45 IC4/PMCS1/PMA14/INT4/RD11 (io), 46 OC1/RD0 (io), 47 SOSCI/CN1/RC13 (io), 48 SOSCO/T1CK/CN0/RC14 (io), 49 OC2/RD1 (io), 50 OC3/RD2 (io), 51 OC4/RD3 (io), 52 OC5/IC5/PMWR/CN13/RD4 (io), 53 PMRD/CN14/RD5 (io), 54 CN15/RD6 (io), 55 CN16/RD7 (io), 56 VCAP/VCORE (power), 57 ENVREG (in), 58 RF0 (io), 59 RF1 (io), 60 PMD0/RE0 (io), 61 PMD1/RE1 (io), 62 PMD2/RE2 (io), 63 PMD3/RE3 (io), 64 PMD4/RE4 (io)

## PIC32MX320F064H-80I/MR
designator U?
High Performance 80 MHz MIPS-Based 32-Bit Flash Microcontroller, 64KB Program Memory, 64-pin QFN, Industrial Temperature; Manufacturer: Microchip; PartNumber: PIC32MX320F064H-80I/MR; DatasheetVersion: revH, May-2011; PackageVersion: revBB, Aug-2009; PackageReference: QFN-MR64; PackageDescription: 64-Lead Plastic Quad Flat, No Lead Package (MR) - 9x9x0.9 mm Body [QFN]; Supplier 1: Digi-Key; Supplier Part Number 1: PIC32MX320F064H-80I/MR-ND; Mounting Technology: Surface Mount; ComponentLink1Description: Manufacturer URL; ComponentLink1URL: http://www.microchip.com/; ComponentLink2Description: Datasheet; ComponentLink2URL: http://ww1.microchip.com/downloads/en/DeviceDoc/61143H.pdf; ComponentLink3Description: Package Specification; ComponentLink3URL: http://ww1.microchip.com/downloads/en/PackagingSpec/en012702.pdf
footprint QFN-MR64_N (QFN, 64-Leads, Body 9x9mm, Pitch 0.5mm, Thermal Pad 7.5x7.5mm, IPC Medium Density)
footprint QFN-MR64_L (QFN, 64-Leads, Body 9x9mm, Pitch 0.5mm, Thermal Pad 7.5x7.5mm, IPC High Density)
footprint QFN-MR64_M (QFN, 64-Leads, Body 9x9mm, Pitch 0.5mm, Thermal Pad 7.5x7.5mm, IPC Low Density)
pins: 1 PMD5/RE5 (io), 2 PMD6/RE6 (io), 3 PMD7/RE7 (io), 4 SCK2/PMA5/CN8/RG6 (io), 5 SDI2/PMA4/CN9/RG7 (io), 6 SDO2/PMA3/CN10/RG8 (io), 7 ~{MCLR} (in), 8 ~{SS2}/PMA2/CN11/RG9 (io), 9 VSS (power), 10 VDD (power), 11 AN5/C1IN+/CN7/RB5 (io), 12 AN4/C1IN-/CN6/RB4 (io), 13 AN3/C2IN+/CN5/RB3 (io), 14 AN2/C2IN-/~{SS1}/CN4/RB2 (io), 15 PGEC1/AN1/VREF-/CVREF-/CN3/RB1 (io), 16 PGED1/AN0/VREF+/CVREF+/PMA6/CN2/RB0 (io), 17 PGEC2/AN6/OCFA/RB6 (io), 18 PGED2/AN7/RB7 (io), 19 AVDD (power), 20 AVSS (power), 21 AN8/~{U2CTS}/C1OUT/RB8 (io), 22 AN9/C2OUT/PMA7/RB9 (io), 23 TMS/AN10/CVREFOUT/PMA13/RB10 (io), 24 TDO/AN11/PMA12/RB11 (io), 25 VSS (power), 26 VDD (power), 27 TCK/AN12/PMA11/RB12 (io), 28 TDI/AN13/PMA10/RB13 (io), 29 AN14/~{U2RTS}/PMALH/PMA1/RB14 (io), 30 AN15/OCFB/PMALL/PMA0/CN12/RB15 (io), 31 SDA2/U2RX/PMA9/CN17/RF4 (io), 32 SCL2/U2TX/PMA8/CN18/RF5 (io), 33 U1TX/SDO1/RF3 (io), 34 U1RX/SDI1/RF2 (io), 35 ~{U1RTS}/SCK1/INT0/RF6 (io), 36 SDA1/RG3 (io), 37 SCL1/RG2 (io), 38 VDD (power), 39 OSC1/CLKI/RC12 (io), 40 OSC2/CLKO/RC15 (io), 41 VSS (power), 42 RTCC/IC1/INT1/RD8 (io), 43 ~{U1CTS}/IC2/INT2/RD9 (io), 44 IC3/PMCS2/PMA15/INT3/RD10 (io), 45 IC4/PMCS1/PMA14/INT4/RD11 (io), 46 OC1/RD0 (io), 47 SOSCI/CN1/RC13 (io), 48 SOSCO/T1CK/CN0/RC14 (io), 49 OC2/RD1 (io), 50 OC3/RD2 (io), 51 OC4/RD3 (io), 52 OC5/IC5/PMWR/CN13/RD4 (io), 53 PMRD/CN14/RD5 (io), 54 CN15/RD6 (io), 55 CN16/RD7 (io), 56 VCAP/VCORE (power), 57 ENVREG (in), 58 RF0 (io), 59 RF1 (io), 60 PMD0/RE0 (io), 61 PMD1/RE1 (io), 62 PMD2/RE2 (io), 63 PMD3/RE3 (io), 64 PMD4/RE4 (io), 65 Thermal Pad

## PIC32MX320F064H-80I/PT
designator U?
High Performance 80 MHz MIPS-Based 32-Bit Flash Microcontroller, 64KB Program Memory, 64-pin TQFP, Industrial Temperature; Manufacturer: Microchip; PartNumber: PIC32MX320F064H-80I/PT; DatasheetVersion: revH, May-2011; PackageVersion: revBB, Aug-2009; PackageReference: TQFP-PT64; PackageDescription: 64-Lead Thin Plastic Quad Flat Pack (PT) - 10x10x1mm Body, 2.00mm [TQFP]; Supplier 1: Digi-Key; Supplier Part Number 1: PIC32MX320F064H-80I/PT-ND; Mounting Technology: Surface Mount; Code_JEDEC: MS-026; ComponentLink1Description: Manufacturer URL; ComponentLink1URL: http://www.microchip.com/; ComponentLink2Description: Datasheet; ComponentLink2URL: http://ww1.microchip.com/downloads/en/DeviceDoc/61143H.pdf; ComponentLink3Description: Package Specification; ComponentLink3URL: http://ww1.microchip.com/downloads/en/PackagingSpec/en012702.pdf
footprint TQFP-PT64_N (Thin QFP, 64-Leads, Body 10x10mm, Pitch 0.5mm, IPC Medium Density)
footprint TQFP-PT64_L (Thin QFP, 64-Leads, Body 10x10mm, Pitch 0.5mm, IPC High Density)
footprint TQFP-PT64_M (Thin QFP, 64-Leads, Body 10x10mm, Pitch 0.5mm, IPC Low Density)
pins: 1 PMD5/RE5 (io), 2 PMD6/RE6 (io), 3 PMD7/RE7 (io), 4 SCK2/PMA5/CN8/RG6 (io), 5 SDI2/PMA4/CN9/RG7 (io), 6 SDO2/PMA3/CN10/RG8 (io), 7 ~{MCLR} (in), 8 ~{SS2}/PMA2/CN11/RG9 (io), 9 VSS (power), 10 VDD (power), 11 AN5/C1IN+/CN7/RB5 (io), 12 AN4/C1IN-/CN6/RB4 (io), 13 AN3/C2IN+/CN5/RB3 (io), 14 AN2/C2IN-/~{SS1}/CN4/RB2 (io), 15 PGEC1/AN1/VREF-/CVREF-/CN3/RB1 (io), 16 PGED1/AN0/VREF+/CVREF+/PMA6/CN2/RB0 (io), 17 PGEC2/AN6/OCFA/RB6 (io), 18 PGED2/AN7/RB7 (io), 19 AVDD (power), 20 AVSS (power), 21 AN8/~{U2CTS}/C1OUT/RB8 (io), 22 AN9/C2OUT/PMA7/RB9 (io), 23 TMS/AN10/CVREFOUT/PMA13/RB10 (io), 24 TDO/AN11/PMA12/RB11 (io), 25 VSS (power), 26 VDD (power), 27 TCK/AN12/PMA11/RB12 (io), 28 TDI/AN13/PMA10/RB13 (io), 29 AN14/~{U2RTS}/PMALH/PMA1/RB14 (io), 30 AN15/OCFB/PMALL/PMA0/CN12/RB15 (io), 31 SDA2/U2RX/PMA9/CN17/RF4 (io), 32 SCL2/U2TX/PMA8/CN18/RF5 (io), 33 U1TX/SDO1/RF3 (io), 34 U1RX/SDI1/RF2 (io), 35 ~{U1RTS}/SCK1/INT0/RF6 (io), 36 SDA1/RG3 (io), 37 SCL1/RG2 (io), 38 VDD (power), 39 OSC1/CLKI/RC12 (io), 40 OSC2/CLKO/RC15 (io), 41 VSS (power), 42 RTCC/IC1/INT1/RD8 (io), 43 ~{U1CTS}/IC2/INT2/RD9 (io), 44 IC3/PMCS2/PMA15/INT3/RD10 (io), 45 IC4/PMCS1/PMA14/INT4/RD11 (io), 46 OC1/RD0 (io), 47 SOSCI/CN1/RC13 (io), 48 SOSCO/T1CK/CN0/RC14 (io), 49 OC2/RD1 (io), 50 OC3/RD2 (io), 51 OC4/RD3 (io), 52 OC5/IC5/PMWR/CN13/RD4 (io), 53 PMRD/CN14/RD5 (io), 54 CN15/RD6 (io), 55 CN16/RD7 (io), 56 VCAP/VCORE (power), 57 ENVREG (in), 58 RF0 (io), 59 RF1 (io), 60 PMD0/RE0 (io), 61 PMD1/RE1 (io), 62 PMD2/RE2 (io), 63 PMD3/RE3 (io), 64 PMD4/RE4 (io)

## PIC32MX320F064H-80V/MR
designator U?
High Performance 80 MHz MIPS-Based 32-Bit Flash Microcontroller, 64KB Program Memory, 64-pin QFN, V-Temperature; Manufacturer: Microchip; PartNumber: PIC32MX320F064H-80V/MR; DatasheetVersion: revH, May-2011; PackageVersion: revBB, Aug-2009; PackageReference: QFN-MR64; PackageDescription: 64-Lead Plastic Quad Flat, No Lead Package (MR) - 9x9x0.9 mm Body [QFN]; Supplier 1: Digi-Key; Supplier Part Number 1: PIC32MX320F064H-80V/MR-ND; Mounting Technology: Surface Mount; ComponentLink1Description: Manufacturer URL; ComponentLink1URL: http://www.microchip.com/; ComponentLink2Description: Datasheet; ComponentLink2URL: http://ww1.microchip.com/downloads/en/DeviceDoc/61143H.pdf; ComponentLink3Description: Package Specification; ComponentLink3URL: http://ww1.microchip.com/downloads/en/PackagingSpec/en012702.pdf
footprint QFN-MR64_N (QFN, 64-Leads, Body 9x9mm, Pitch 0.5mm, Thermal Pad 7.5x7.5mm, IPC Medium Density)
footprint QFN-MR64_L (QFN, 64-Leads, Body 9x9mm, Pitch 0.5mm, Thermal Pad 7.5x7.5mm, IPC High Density)
footprint QFN-MR64_M (QFN, 64-Leads, Body 9x9mm, Pitch 0.5mm, Thermal Pad 7.5x7.5mm, IPC Low Density)
pins: 1 PMD5/RE5 (io), 2 PMD6/RE6 (io), 3 PMD7/RE7 (io), 4 SCK2/PMA5/CN8/RG6 (io), 5 SDI2/PMA4/CN9/RG7 (io), 6 SDO2/PMA3/CN10/RG8 (io), 7 ~{MCLR} (in), 8 ~{SS2}/PMA2/CN11/RG9 (io), 9 VSS (power), 10 VDD (power), 11 AN5/C1IN+/CN7/RB5 (io), 12 AN4/C1IN-/CN6/RB4 (io), 13 AN3/C2IN+/CN5/RB3 (io), 14 AN2/C2IN-/~{SS1}/CN4/RB2 (io), 15 PGEC1/AN1/VREF-/CVREF-/CN3/RB1 (io), 16 PGED1/AN0/VREF+/CVREF+/PMA6/CN2/RB0 (io), 17 PGEC2/AN6/OCFA/RB6 (io), 18 PGED2/AN7/RB7 (io), 19 AVDD (power), 20 AVSS (power), 21 AN8/~{U2CTS}/C1OUT/RB8 (io), 22 AN9/C2OUT/PMA7/RB9 (io), 23 TMS/AN10/CVREFOUT/PMA13/RB10 (io), 24 TDO/AN11/PMA12/RB11 (io), 25 VSS (power), 26 VDD (power), 27 TCK/AN12/PMA11/RB12 (io), 28 TDI/AN13/PMA10/RB13 (io), 29 AN14/~{U2RTS}/PMALH/PMA1/RB14 (io), 30 AN15/OCFB/PMALL/PMA0/CN12/RB15 (io), 31 SDA2/U2RX/PMA9/CN17/RF4 (io), 32 SCL2/U2TX/PMA8/CN18/RF5 (io), 33 U1TX/SDO1/RF3 (io), 34 U1RX/SDI1/RF2 (io), 35 ~{U1RTS}/SCK1/INT0/RF6 (io), 36 SDA1/RG3 (io), 37 SCL1/RG2 (io), 38 VDD (power), 39 OSC1/CLKI/RC12 (io), 40 OSC2/CLKO/RC15 (io), 41 VSS (power), 42 RTCC/IC1/INT1/RD8 (io), 43 ~{U1CTS}/IC2/INT2/RD9 (io), 44 IC3/PMCS2/PMA15/INT3/RD10 (io), 45 IC4/PMCS1/PMA14/INT4/RD11 (io), 46 OC1/RD0 (io), 47 SOSCI/CN1/RC13 (io), 48 SOSCO/T1CK/CN0/RC14 (io), 49 OC2/RD1 (io), 50 OC3/RD2 (io), 51 OC4/RD3 (io), 52 OC5/IC5/PMWR/CN13/RD4 (io), 53 PMRD/CN14/RD5 (io), 54 CN15/RD6 (io), 55 CN16/RD7 (io), 56 VCAP/VCORE (power), 57 ENVREG (in), 58 RF0 (io), 59 RF1 (io), 60 PMD0/RE0 (io), 61 PMD1/RE1 (io), 62 PMD2/RE2 (io), 63 PMD3/RE3 (io), 64 PMD4/RE4 (io), 65 Thermal Pad

## PIC32MX320F064H-80V/PT
designator U?
High Performance 80 MHz MIPS-Based 32-Bit Flash Microcontroller, 64KB Program Memory, 64-pin TQFP, V-Temperature; Manufacturer: Microchip; PartNumber: PIC32MX320F064H-80V/PT; DatasheetVersion: revH, May-2011; PackageVersion: revBB, Aug-2009; PackageReference: TQFP-PT64; PackageDescription: 64-Lead Thin Plastic Quad Flat Pack (PT) - 10x10x1mm Body, 2.00mm [TQFP]; Supplier 1: Digi-Key; Supplier Part Number 1: PIC32MX320F064H-80V/PT-ND; Mounting Technology: Surface Mount; Code_JEDEC: MS-026; ComponentLink1Description: Manufacturer URL; ComponentLink1URL: http://www.microchip.com/; ComponentLink2Description: Datasheet; ComponentLink2URL: http://ww1.microchip.com/downloads/en/DeviceDoc/61143H.pdf; ComponentLink3Description: Package Specification; ComponentLink3URL: http://ww1.microchip.com/downloads/en/PackagingSpec/en012702.pdf
footprint TQFP-PT64_N (Thin QFP, 64-Leads, Body 10x10mm, Pitch 0.5mm, IPC Medium Density)
footprint TQFP-PT64_L (Thin QFP, 64-Leads, Body 10x10mm, Pitch 0.5mm, IPC High Density)
footprint TQFP-PT64_M (Thin QFP, 64-Leads, Body 10x10mm, Pitch 0.5mm, IPC Low Density)
pins: 1 PMD5/RE5 (io), 2 PMD6/RE6 (io), 3 PMD7/RE7 (io), 4 SCK2/PMA5/CN8/RG6 (io), 5 SDI2/PMA4/CN9/RG7 (io), 6 SDO2/PMA3/CN10/RG8 (io), 7 ~{MCLR} (in), 8 ~{SS2}/PMA2/CN11/RG9 (io), 9 VSS (power), 10 VDD (power), 11 AN5/C1IN+/CN7/RB5 (io), 12 AN4/C1IN-/CN6/RB4 (io), 13 AN3/C2IN+/CN5/RB3 (io), 14 AN2/C2IN-/~{SS1}/CN4/RB2 (io), 15 PGEC1/AN1/VREF-/CVREF-/CN3/RB1 (io), 16 PGED1/AN0/VREF+/CVREF+/PMA6/CN2/RB0 (io), 17 PGEC2/AN6/OCFA/RB6 (io), 18 PGED2/AN7/RB7 (io), 19 AVDD (power), 20 AVSS (power), 21 AN8/~{U2CTS}/C1OUT/RB8 (io), 22 AN9/C2OUT/PMA7/RB9 (io), 23 TMS/AN10/CVREFOUT/PMA13/RB10 (io), 24 TDO/AN11/PMA12/RB11 (io), 25 VSS (power), 26 VDD (power), 27 TCK/AN12/PMA11/RB12 (io), 28 TDI/AN13/PMA10/RB13 (io), 29 AN14/~{U2RTS}/PMALH/PMA1/RB14 (io), 30 AN15/OCFB/PMALL/PMA0/CN12/RB15 (io), 31 SDA2/U2RX/PMA9/CN17/RF4 (io), 32 SCL2/U2TX/PMA8/CN18/RF5 (io), 33 U1TX/SDO1/RF3 (io), 34 U1RX/SDI1/RF2 (io), 35 ~{U1RTS}/SCK1/INT0/RF6 (io), 36 SDA1/RG3 (io), 37 SCL1/RG2 (io), 38 VDD (power), 39 OSC1/CLKI/RC12 (io), 40 OSC2/CLKO/RC15 (io), 41 VSS (power), 42 RTCC/IC1/INT1/RD8 (io), 43 ~{U1CTS}/IC2/INT2/RD9 (io), 44 IC3/PMCS2/PMA15/INT3/RD10 (io), 45 IC4/PMCS1/PMA14/INT4/RD11 (io), 46 OC1/RD0 (io), 47 SOSCI/CN1/RC13 (io), 48 SOSCO/T1CK/CN0/RC14 (io), 49 OC2/RD1 (io), 50 OC3/RD2 (io), 51 OC4/RD3 (io), 52 OC5/IC5/PMWR/CN13/RD4 (io), 53 PMRD/CN14/RD5 (io), 54 CN15/RD6 (io), 55 CN16/RD7 (io), 56 VCAP/VCORE (power), 57 ENVREG (in), 58 RF0 (io), 59 RF1 (io), 60 PMD0/RE0 (io), 61 PMD1/RE1 (io), 62 PMD2/RE2 (io), 63 PMD3/RE3 (io), 64 PMD4/RE4 (io)

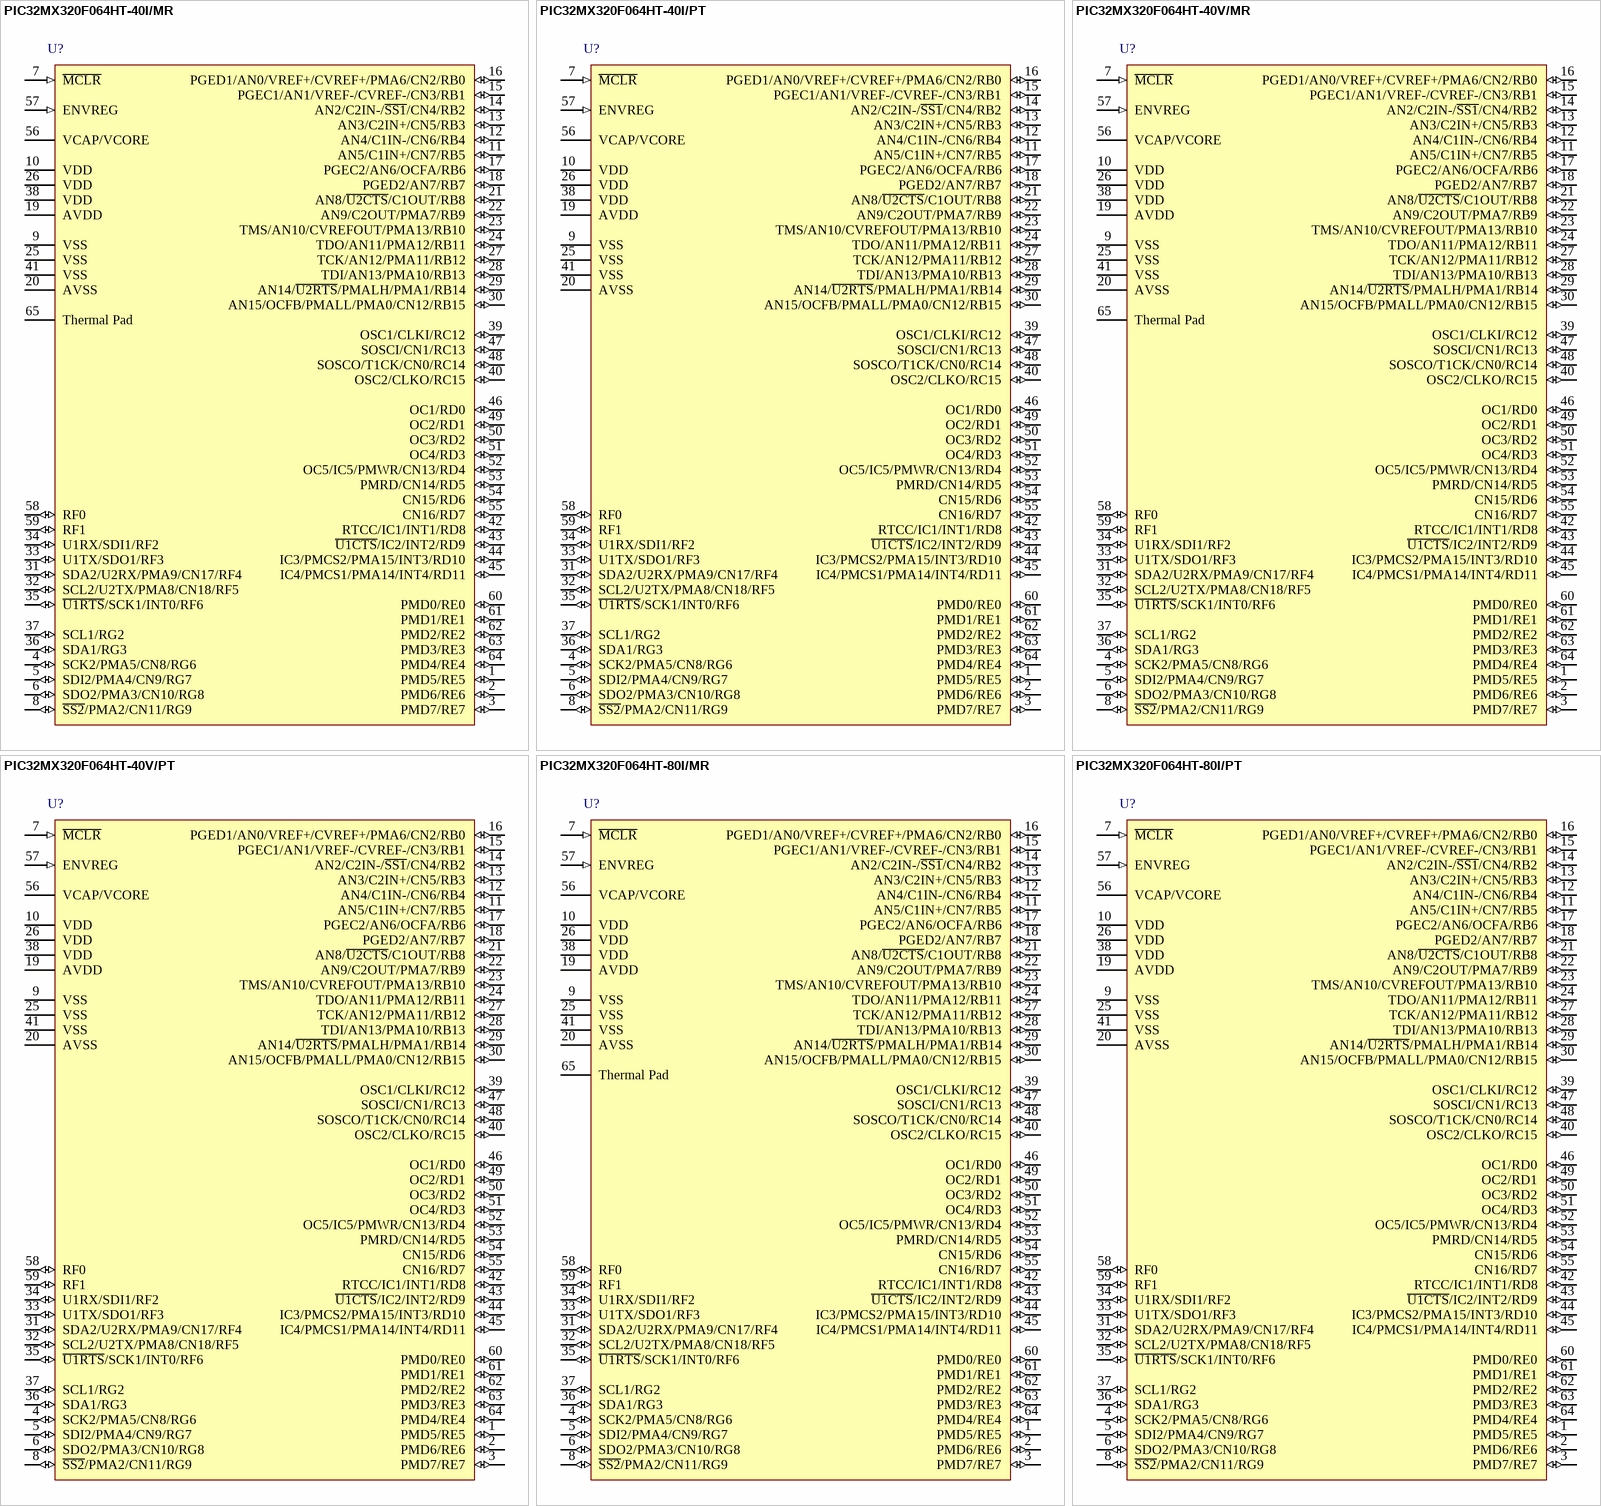
[diagram p27: symbols PIC32MX320F064HT-40I/MR to PIC32MX320F064HT-80I/PT]

## PIC32MX320F064HT-40I/MR
designator U?
High Performance 80 MHz MIPS-Based 32-Bit Flash Microcontroller, 64KB Program Memory, 64-pin QFN, Industrial Temperature, Tape and Reel; Manufacturer: Microchip; PartNumber: PIC32MX320F064HT-40I/MR; DatasheetVersion: revH, May-2011; PackageVersion: revBB, Aug-2009; PackageReference: QFN-MR64; PackageDescription: 64-Lead Plastic Quad Flat, No Lead Package (MR) - 9x9x0.9 mm Body [QFN]; Supplier 1: Digi-Key; Supplier Part Number 1: PIC32MX320F064HT-40I/MR-ND; Mounting Technology: Surface Mount; ComponentLink1Description: Manufacturer URL; ComponentLink1URL: http://www.microchip.com/; ComponentLink2Description: Datasheet; ComponentLink2URL: http://ww1.microchip.com/downloads/en/DeviceDoc/61143H.pdf; ComponentLink3Description: Package Specification; ComponentLink3URL: http://ww1.microchip.com/downloads/en/PackagingSpec/en012702.pdf
footprint QFN-MR64_N (QFN, 64-Leads, Body 9x9mm, Pitch 0.5mm, Thermal Pad 7.5x7.5mm, IPC Medium Density)
footprint QFN-MR64_L (QFN, 64-Leads, Body 9x9mm, Pitch 0.5mm, Thermal Pad 7.5x7.5mm, IPC High Density)
footprint QFN-MR64_M (QFN, 64-Leads, Body 9x9mm, Pitch 0.5mm, Thermal Pad 7.5x7.5mm, IPC Low Density)
pins: 1 PMD5/RE5 (io), 2 PMD6/RE6 (io), 3 PMD7/RE7 (io), 4 SCK2/PMA5/CN8/RG6 (io), 5 SDI2/PMA4/CN9/RG7 (io), 6 SDO2/PMA3/CN10/RG8 (io), 7 ~{MCLR} (in), 8 ~{SS2}/PMA2/CN11/RG9 (io), 9 VSS (power), 10 VDD (power), 11 AN5/C1IN+/CN7/RB5 (io), 12 AN4/C1IN-/CN6/RB4 (io), 13 AN3/C2IN+/CN5/RB3 (io), 14 AN2/C2IN-/~{SS1}/CN4/RB2 (io), 15 PGEC1/AN1/VREF-/CVREF-/CN3/RB1 (io), 16 PGED1/AN0/VREF+/CVREF+/PMA6/CN2/RB0 (io), 17 PGEC2/AN6/OCFA/RB6 (io), 18 PGED2/AN7/RB7 (io), 19 AVDD (power), 20 AVSS (power), 21 AN8/~{U2CTS}/C1OUT/RB8 (io), 22 AN9/C2OUT/PMA7/RB9 (io), 23 TMS/AN10/CVREFOUT/PMA13/RB10 (io), 24 TDO/AN11/PMA12/RB11 (io), 25 VSS (power), 26 VDD (power), 27 TCK/AN12/PMA11/RB12 (io), 28 TDI/AN13/PMA10/RB13 (io), 29 AN14/~{U2RTS}/PMALH/PMA1/RB14 (io), 30 AN15/OCFB/PMALL/PMA0/CN12/RB15 (io), 31 SDA2/U2RX/PMA9/CN17/RF4 (io), 32 SCL2/U2TX/PMA8/CN18/RF5 (io), 33 U1TX/SDO1/RF3 (io), 34 U1RX/SDI1/RF2 (io), 35 ~{U1RTS}/SCK1/INT0/RF6 (io), 36 SDA1/RG3 (io), 37 SCL1/RG2 (io), 38 VDD (power), 39 OSC1/CLKI/RC12 (io), 40 OSC2/CLKO/RC15 (io), 41 VSS (power), 42 RTCC/IC1/INT1/RD8 (io), 43 ~{U1CTS}/IC2/INT2/RD9 (io), 44 IC3/PMCS2/PMA15/INT3/RD10 (io), 45 IC4/PMCS1/PMA14/INT4/RD11 (io), 46 OC1/RD0 (io), 47 SOSCI/CN1/RC13 (io), 48 SOSCO/T1CK/CN0/RC14 (io), 49 OC2/RD1 (io), 50 OC3/RD2 (io), 51 OC4/RD3 (io), 52 OC5/IC5/PMWR/CN13/RD4 (io), 53 PMRD/CN14/RD5 (io), 54 CN15/RD6 (io), 55 CN16/RD7 (io), 56 VCAP/VCORE (power), 57 ENVREG (in), 58 RF0 (io), 59 RF1 (io), 60 PMD0/RE0 (io), 61 PMD1/RE1 (io), 62 PMD2/RE2 (io), 63 PMD3/RE3 (io), 64 PMD4/RE4 (io), 65 Thermal Pad

## PIC32MX320F064HT-40I/PT
designator U?
High Performance 80 MHz MIPS-Based 32-Bit Flash Microcontroller, 64KB Program Memory, 64-pin TQFP, Industrial Temperature, Tape and Reel; Manufacturer: Microchip; PartNumber: PIC32MX320F064HT-40I/PT; DatasheetVersion: revH, May-2011; PackageVersion: revBB, Aug-2009; PackageReference: TQFP-PT64; PackageDescription: 64-Lead Thin Plastic Quad Flat Pack (PT) - 10x10x1mm Body, 2.00mm [TQFP]; Supplier 1: Digi-Key; Supplier Part Number 1: PIC32MX320F064HT-40I/PT-ND; Mounting Technology: Surface Mount; Code_JEDEC: MS-026; ComponentLink1Description: Manufacturer URL; ComponentLink1URL: http://www.microchip.com/; ComponentLink2Description: Datasheet; ComponentLink2URL: http://ww1.microchip.com/downloads/en/DeviceDoc/61143H.pdf; ComponentLink3Description: Package Specification; ComponentLink3URL: http://ww1.microchip.com/downloads/en/PackagingSpec/en012702.pdf
footprint TQFP-PT64_N (Thin QFP, 64-Leads, Body 10x10mm, Pitch 0.5mm, IPC Medium Density)
footprint TQFP-PT64_L (Thin QFP, 64-Leads, Body 10x10mm, Pitch 0.5mm, IPC High Density)
footprint TQFP-PT64_M (Thin QFP, 64-Leads, Body 10x10mm, Pitch 0.5mm, IPC Low Density)
pins: 1 PMD5/RE5 (io), 2 PMD6/RE6 (io), 3 PMD7/RE7 (io), 4 SCK2/PMA5/CN8/RG6 (io), 5 SDI2/PMA4/CN9/RG7 (io), 6 SDO2/PMA3/CN10/RG8 (io), 7 ~{MCLR} (in), 8 ~{SS2}/PMA2/CN11/RG9 (io), 9 VSS (power), 10 VDD (power), 11 AN5/C1IN+/CN7/RB5 (io), 12 AN4/C1IN-/CN6/RB4 (io), 13 AN3/C2IN+/CN5/RB3 (io), 14 AN2/C2IN-/~{SS1}/CN4/RB2 (io), 15 PGEC1/AN1/VREF-/CVREF-/CN3/RB1 (io), 16 PGED1/AN0/VREF+/CVREF+/PMA6/CN2/RB0 (io), 17 PGEC2/AN6/OCFA/RB6 (io), 18 PGED2/AN7/RB7 (io), 19 AVDD (power), 20 AVSS (power), 21 AN8/~{U2CTS}/C1OUT/RB8 (io), 22 AN9/C2OUT/PMA7/RB9 (io), 23 TMS/AN10/CVREFOUT/PMA13/RB10 (io), 24 TDO/AN11/PMA12/RB11 (io), 25 VSS (power), 26 VDD (power), 27 TCK/AN12/PMA11/RB12 (io), 28 TDI/AN13/PMA10/RB13 (io), 29 AN14/~{U2RTS}/PMALH/PMA1/RB14 (io), 30 AN15/OCFB/PMALL/PMA0/CN12/RB15 (io), 31 SDA2/U2RX/PMA9/CN17/RF4 (io), 32 SCL2/U2TX/PMA8/CN18/RF5 (io), 33 U1TX/SDO1/RF3 (io), 34 U1RX/SDI1/RF2 (io), 35 ~{U1RTS}/SCK1/INT0/RF6 (io), 36 SDA1/RG3 (io), 37 SCL1/RG2 (io), 38 VDD (power), 39 OSC1/CLKI/RC12 (io), 40 OSC2/CLKO/RC15 (io), 41 VSS (power), 42 RTCC/IC1/INT1/RD8 (io), 43 ~{U1CTS}/IC2/INT2/RD9 (io), 44 IC3/PMCS2/PMA15/INT3/RD10 (io), 45 IC4/PMCS1/PMA14/INT4/RD11 (io), 46 OC1/RD0 (io), 47 SOSCI/CN1/RC13 (io), 48 SOSCO/T1CK/CN0/RC14 (io), 49 OC2/RD1 (io), 50 OC3/RD2 (io), 51 OC4/RD3 (io), 52 OC5/IC5/PMWR/CN13/RD4 (io), 53 PMRD/CN14/RD5 (io), 54 CN15/RD6 (io), 55 CN16/RD7 (io), 56 VCAP/VCORE (power), 57 ENVREG (in), 58 RF0 (io), 59 RF1 (io), 60 PMD0/RE0 (io), 61 PMD1/RE1 (io), 62 PMD2/RE2 (io), 63 PMD3/RE3 (io), 64 PMD4/RE4 (io)

## PIC32MX320F064HT-40V/MR
designator U?
High Performance 80 MHz MIPS-Based 32-Bit Flash Microcontroller, 64KB Program Memory, 64-pin QFN, V-Temperature, Tape and Reel; Manufacturer: Microchip; PartNumber: PIC32MX320F064HT-40V/MR; DatasheetVersion: revH, May-2011; PackageVersion: revBB, Aug-2009; PackageReference: QFN-MR64; PackageDescription: 64-Lead Plastic Quad Flat, No Lead Package (MR) - 9x9x0.9 mm Body [QFN]; Supplier 1: Digi-Key; Supplier Part Number 1: PIC32MX320F064HT-40V/MR-ND; Mounting Technology: Surface Mount; ComponentLink1Description: Manufacturer URL; ComponentLink1URL: http://www.microchip.com/; ComponentLink2Description: Datasheet; ComponentLink2URL: http://ww1.microchip.com/downloads/en/DeviceDoc/61143H.pdf; ComponentLink3Description: Package Specification; ComponentLink3URL: http://ww1.microchip.com/downloads/en/PackagingSpec/en012702.pdf
footprint QFN-MR64_N (QFN, 64-Leads, Body 9x9mm, Pitch 0.5mm, Thermal Pad 7.5x7.5mm, IPC Medium Density)
footprint QFN-MR64_L (QFN, 64-Leads, Body 9x9mm, Pitch 0.5mm, Thermal Pad 7.5x7.5mm, IPC High Density)
footprint QFN-MR64_M (QFN, 64-Leads, Body 9x9mm, Pitch 0.5mm, Thermal Pad 7.5x7.5mm, IPC Low Density)
pins: 1 PMD5/RE5 (io), 2 PMD6/RE6 (io), 3 PMD7/RE7 (io), 4 SCK2/PMA5/CN8/RG6 (io), 5 SDI2/PMA4/CN9/RG7 (io), 6 SDO2/PMA3/CN10/RG8 (io), 7 ~{MCLR} (in), 8 ~{SS2}/PMA2/CN11/RG9 (io), 9 VSS (power), 10 VDD (power), 11 AN5/C1IN+/CN7/RB5 (io), 12 AN4/C1IN-/CN6/RB4 (io), 13 AN3/C2IN+/CN5/RB3 (io), 14 AN2/C2IN-/~{SS1}/CN4/RB2 (io), 15 PGEC1/AN1/VREF-/CVREF-/CN3/RB1 (io), 16 PGED1/AN0/VREF+/CVREF+/PMA6/CN2/RB0 (io), 17 PGEC2/AN6/OCFA/RB6 (io), 18 PGED2/AN7/RB7 (io), 19 AVDD (power), 20 AVSS (power), 21 AN8/~{U2CTS}/C1OUT/RB8 (io), 22 AN9/C2OUT/PMA7/RB9 (io), 23 TMS/AN10/CVREFOUT/PMA13/RB10 (io), 24 TDO/AN11/PMA12/RB11 (io), 25 VSS (power), 26 VDD (power), 27 TCK/AN12/PMA11/RB12 (io), 28 TDI/AN13/PMA10/RB13 (io), 29 AN14/~{U2RTS}/PMALH/PMA1/RB14 (io), 30 AN15/OCFB/PMALL/PMA0/CN12/RB15 (io), 31 SDA2/U2RX/PMA9/CN17/RF4 (io), 32 SCL2/U2TX/PMA8/CN18/RF5 (io), 33 U1TX/SDO1/RF3 (io), 34 U1RX/SDI1/RF2 (io), 35 ~{U1RTS}/SCK1/INT0/RF6 (io), 36 SDA1/RG3 (io), 37 SCL1/RG2 (io), 38 VDD (power), 39 OSC1/CLKI/RC12 (io), 40 OSC2/CLKO/RC15 (io), 41 VSS (power), 42 RTCC/IC1/INT1/RD8 (io), 43 ~{U1CTS}/IC2/INT2/RD9 (io), 44 IC3/PMCS2/PMA15/INT3/RD10 (io), 45 IC4/PMCS1/PMA14/INT4/RD11 (io), 46 OC1/RD0 (io), 47 SOSCI/CN1/RC13 (io), 48 SOSCO/T1CK/CN0/RC14 (io), 49 OC2/RD1 (io), 50 OC3/RD2 (io), 51 OC4/RD3 (io), 52 OC5/IC5/PMWR/CN13/RD4 (io), 53 PMRD/CN14/RD5 (io), 54 CN15/RD6 (io), 55 CN16/RD7 (io), 56 VCAP/VCORE (power), 57 ENVREG (in), 58 RF0 (io), 59 RF1 (io), 60 PMD0/RE0 (io), 61 PMD1/RE1 (io), 62 PMD2/RE2 (io), 63 PMD3/RE3 (io), 64 PMD4/RE4 (io), 65 Thermal Pad

## PIC32MX320F064HT-40V/PT
designator U?
High Performance 80 MHz MIPS-Based 32-Bit Flash Microcontroller, 64KB Program Memory, 64-pin TQFP, V-Temperature, Tape and Reel; Manufacturer: Microchip; PartNumber: PIC32MX320F064HT-40V/PT; DatasheetVersion: revH, May-2011; PackageVersion: revBB, Aug-2009; PackageReference: TQFP-PT64; PackageDescription: 64-Lead Thin Plastic Quad Flat Pack (PT) - 10x10x1mm Body, 2.00mm [TQFP]; Supplier 1: Digi-Key; Supplier Part Number 1: PIC32MX320F064HT-40V/PT-ND; Mounting Technology: Surface Mount; Code_JEDEC: MS-026; ComponentLink1Description: Manufacturer URL; ComponentLink1URL: http://www.microchip.com/; ComponentLink2Description: Datasheet; ComponentLink2URL: http://ww1.microchip.com/downloads/en/DeviceDoc/61143H.pdf; ComponentLink3Description: Package Specification; ComponentLink3URL: http://ww1.microchip.com/downloads/en/PackagingSpec/en012702.pdf
footprint TQFP-PT64_N (Thin QFP, 64-Leads, Body 10x10mm, Pitch 0.5mm, IPC Medium Density)
footprint TQFP-PT64_L (Thin QFP, 64-Leads, Body 10x10mm, Pitch 0.5mm, IPC High Density)
footprint TQFP-PT64_M (Thin QFP, 64-Leads, Body 10x10mm, Pitch 0.5mm, IPC Low Density)
pins: 1 PMD5/RE5 (io), 2 PMD6/RE6 (io), 3 PMD7/RE7 (io), 4 SCK2/PMA5/CN8/RG6 (io), 5 SDI2/PMA4/CN9/RG7 (io), 6 SDO2/PMA3/CN10/RG8 (io), 7 ~{MCLR} (in), 8 ~{SS2}/PMA2/CN11/RG9 (io), 9 VSS (power), 10 VDD (power), 11 AN5/C1IN+/CN7/RB5 (io), 12 AN4/C1IN-/CN6/RB4 (io), 13 AN3/C2IN+/CN5/RB3 (io), 14 AN2/C2IN-/~{SS1}/CN4/RB2 (io), 15 PGEC1/AN1/VREF-/CVREF-/CN3/RB1 (io), 16 PGED1/AN0/VREF+/CVREF+/PMA6/CN2/RB0 (io), 17 PGEC2/AN6/OCFA/RB6 (io), 18 PGED2/AN7/RB7 (io), 19 AVDD (power), 20 AVSS (power), 21 AN8/~{U2CTS}/C1OUT/RB8 (io), 22 AN9/C2OUT/PMA7/RB9 (io), 23 TMS/AN10/CVREFOUT/PMA13/RB10 (io), 24 TDO/AN11/PMA12/RB11 (io), 25 VSS (power), 26 VDD (power), 27 TCK/AN12/PMA11/RB12 (io), 28 TDI/AN13/PMA10/RB13 (io), 29 AN14/~{U2RTS}/PMALH/PMA1/RB14 (io), 30 AN15/OCFB/PMALL/PMA0/CN12/RB15 (io), 31 SDA2/U2RX/PMA9/CN17/RF4 (io), 32 SCL2/U2TX/PMA8/CN18/RF5 (io), 33 U1TX/SDO1/RF3 (io), 34 U1RX/SDI1/RF2 (io), 35 ~{U1RTS}/SCK1/INT0/RF6 (io), 36 SDA1/RG3 (io), 37 SCL1/RG2 (io), 38 VDD (power), 39 OSC1/CLKI/RC12 (io), 40 OSC2/CLKO/RC15 (io), 41 VSS (power), 42 RTCC/IC1/INT1/RD8 (io), 43 ~{U1CTS}/IC2/INT2/RD9 (io), 44 IC3/PMCS2/PMA15/INT3/RD10 (io), 45 IC4/PMCS1/PMA14/INT4/RD11 (io), 46 OC1/RD0 (io), 47 SOSCI/CN1/RC13 (io), 48 SOSCO/T1CK/CN0/RC14 (io), 49 OC2/RD1 (io), 50 OC3/RD2 (io), 51 OC4/RD3 (io), 52 OC5/IC5/PMWR/CN13/RD4 (io), 53 PMRD/CN14/RD5 (io), 54 CN15/RD6 (io), 55 CN16/RD7 (io), 56 VCAP/VCORE (power), 57 ENVREG (in), 58 RF0 (io), 59 RF1 (io), 60 PMD0/RE0 (io), 61 PMD1/RE1 (io), 62 PMD2/RE2 (io), 63 PMD3/RE3 (io), 64 PMD4/RE4 (io)

## PIC32MX320F064HT-80I/MR
designator U?
High Performance 80 MHz MIPS-Based 32-Bit Flash Microcontroller, 64KB Program Memory, 64-pin QFN, Industrial Temperature, Tape and Reel; Manufacturer: Microchip; PartNumber: PIC32MX320F064HT-80I/MR; DatasheetVersion: revH, May-2011; PackageVersion: revBB, Aug-2009; PackageReference: QFN-MR64; PackageDescription: 64-Lead Plastic Quad Flat, No Lead Package (MR) - 9x9x0.9 mm Body [QFN]; Supplier 1: Digi-Key; Supplier Part Number 1: PIC32MX320F064HT-80I/MR-ND; Mounting Technology: Surface Mount; ComponentLink1Description: Manufacturer URL; ComponentLink1URL: http://www.microchip.com/; ComponentLink2Description: Datasheet; ComponentLink2URL: http://ww1.microchip.com/downloads/en/DeviceDoc/61143H.pdf; ComponentLink3Description: Package Specification; ComponentLink3URL: http://ww1.microchip.com/downloads/en/PackagingSpec/en012702.pdf
footprint QFN-MR64_N (QFN, 64-Leads, Body 9x9mm, Pitch 0.5mm, Thermal Pad 7.5x7.5mm, IPC Medium Density)
footprint QFN-MR64_L (QFN, 64-Leads, Body 9x9mm, Pitch 0.5mm, Thermal Pad 7.5x7.5mm, IPC High Density)
footprint QFN-MR64_M (QFN, 64-Leads, Body 9x9mm, Pitch 0.5mm, Thermal Pad 7.5x7.5mm, IPC Low Density)
pins: 1 PMD5/RE5 (io), 2 PMD6/RE6 (io), 3 PMD7/RE7 (io), 4 SCK2/PMA5/CN8/RG6 (io), 5 SDI2/PMA4/CN9/RG7 (io), 6 SDO2/PMA3/CN10/RG8 (io), 7 ~{MCLR} (in), 8 ~{SS2}/PMA2/CN11/RG9 (io), 9 VSS (power), 10 VDD (power), 11 AN5/C1IN+/CN7/RB5 (io), 12 AN4/C1IN-/CN6/RB4 (io), 13 AN3/C2IN+/CN5/RB3 (io), 14 AN2/C2IN-/~{SS1}/CN4/RB2 (io), 15 PGEC1/AN1/VREF-/CVREF-/CN3/RB1 (io), 16 PGED1/AN0/VREF+/CVREF+/PMA6/CN2/RB0 (io), 17 PGEC2/AN6/OCFA/RB6 (io), 18 PGED2/AN7/RB7 (io), 19 AVDD (power), 20 AVSS (power), 21 AN8/~{U2CTS}/C1OUT/RB8 (io), 22 AN9/C2OUT/PMA7/RB9 (io), 23 TMS/AN10/CVREFOUT/PMA13/RB10 (io), 24 TDO/AN11/PMA12/RB11 (io), 25 VSS (power), 26 VDD (power), 27 TCK/AN12/PMA11/RB12 (io), 28 TDI/AN13/PMA10/RB13 (io), 29 AN14/~{U2RTS}/PMALH/PMA1/RB14 (io), 30 AN15/OCFB/PMALL/PMA0/CN12/RB15 (io), 31 SDA2/U2RX/PMA9/CN17/RF4 (io), 32 SCL2/U2TX/PMA8/CN18/RF5 (io), 33 U1TX/SDO1/RF3 (io), 34 U1RX/SDI1/RF2 (io), 35 ~{U1RTS}/SCK1/INT0/RF6 (io), 36 SDA1/RG3 (io), 37 SCL1/RG2 (io), 38 VDD (power), 39 OSC1/CLKI/RC12 (io), 40 OSC2/CLKO/RC15 (io), 41 VSS (power), 42 RTCC/IC1/INT1/RD8 (io), 43 ~{U1CTS}/IC2/INT2/RD9 (io), 44 IC3/PMCS2/PMA15/INT3/RD10 (io), 45 IC4/PMCS1/PMA14/INT4/RD11 (io), 46 OC1/RD0 (io), 47 SOSCI/CN1/RC13 (io), 48 SOSCO/T1CK/CN0/RC14 (io), 49 OC2/RD1 (io), 50 OC3/RD2 (io), 51 OC4/RD3 (io), 52 OC5/IC5/PMWR/CN13/RD4 (io), 53 PMRD/CN14/RD5 (io), 54 CN15/RD6 (io), 55 CN16/RD7 (io), 56 VCAP/VCORE (power), 57 ENVREG (in), 58 RF0 (io), 59 RF1 (io), 60 PMD0/RE0 (io), 61 PMD1/RE1 (io), 62 PMD2/RE2 (io), 63 PMD3/RE3 (io), 64 PMD4/RE4 (io), 65 Thermal Pad